# Altium schematic symbol library RPi Module.SchLib: 16 symbols
Pins are listed as number, name and electrical type; pins without a type are passive.

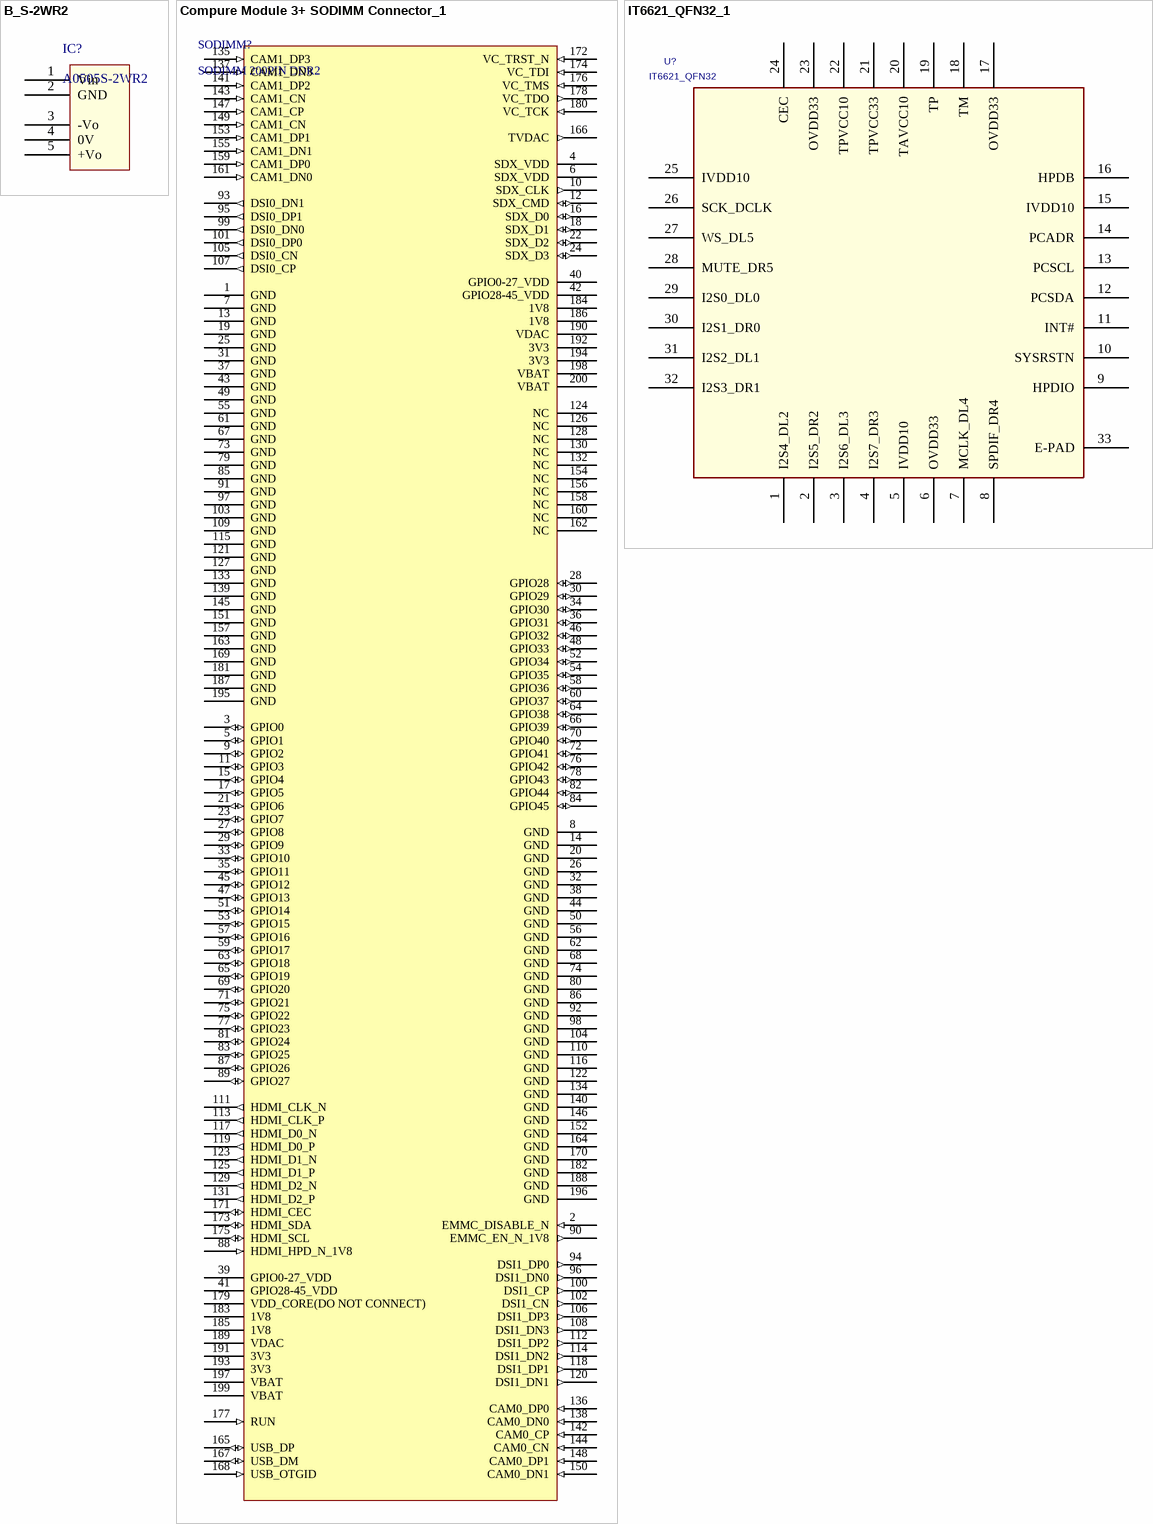
[diagram p0: symbols B_S-2WR2 to IT6621_QFN32_1]

## B_S-2WR2
designator IC?, comment A0505S-2WR2
MORNSUN DC-DC模块 2我，定压输入，隔离非稳压 正负双路/单路输出
footprint B_S-2WR2 (MORNSUN A_S-2WR2&B_S-2WR2系列)
pins: 1 Vin (power), 2 GND (power), 3 -Vo (power), 4 0V (power), 5 +Vo (power)

## Compure Module 3+ SODIMM Connector_1
designator SODIMM?, comment SODIMM 200PIN DDR2
ComponentLink1Description: DataSheets; ComponentLink1URL: https://www.raspberrypi.org/documentation/hardware/computemodule/datasheets/rpi_DATA_CM3plus_1p0.pdf
footprint SODIMM 200PIN (200 位 SODIMM DDR2 SDRAM 表面贴装)
pins: 1 GND (power), 2 EMMC_DISABLE_N (in), 3 GPIO0 (io), 4 SDX_VDD (power), 5 GPIO1 (io), 6 SDX_VDD (power), 7 GND (power), 8 GND (power), 9 GPIO2 (io), 10 SDX_CLK (out), 11 GPIO3 (io), 12 SDX_CMD (io), 13 GND (power), 14 GND (power), 15 GPIO4 (io), 16 SDX_D0 (io), 17 GPIO5 (io), 18 SDX_D1 (io), 19 GND (power), 20 GND (power), 21 GPIO6 (io), 22 SDX_D2 (io), 23 GPIO7 (io), 24 SDX_D3 (io), 25 GND (power), 26 GND (power), 27 GPIO8 (io), 28 GPIO28 (io), 29 GPIO9 (io), 30 GPIO29 (io), 31 GND (power), 32 GND (power), 33 GPIO10 (io), 34 GPIO30 (io), 35 GPIO11 (io), 36 GPIO31 (io), 37 GND (power), 38 GND (power), 39 GPIO0-27_VDD (power), 40 GPIO0-27_VDD (power), 41 GPIO28-45_VDD (power), 42 GPIO28-45_VDD (power), 43 GND (power), 44 GND (power), 45 GPIO12 (io), 46 GPIO32 (io), 47 GPIO13 (io), 48 GPIO33 (io), 49 GND (power), 50 GND (power), 51 GPIO14 (io), 52 GPIO34 (io), 53 GPIO15 (io), 54 GPIO35 (io), 55 GND (power), 56 GND (power), 57 GPIO16 (io), 58 GPIO36 (io), 59 GPIO17 (io), 60 GPIO37 (io), 61 GND (power), 62 GND (power), 63 GPIO18 (io), 64 GPIO38 (io), 65 GPIO19 (io), 66 GPIO39 (io), 67 GND (power), 68 GND (power), 69 GPIO20 (io), 70 GPIO40 (io), 71 GPIO21 (io), 72 GPIO41 (io), 73 GND (power), 74 GND (power), 75 GPIO22 (io), 76 GPIO42 (io), 77 GPIO23 (io), 78 GPIO43 (io), 79 GND (power), 80 GND (power), 81 GPIO24 (io), 82 GPIO44 (io), 83 GPIO25 (io), 84 GPIO45 (io), 85 GND (power), 86 GND (power), 87 GPIO26 (io), 88 HDMI_HPD_N_1V8 (in), 89 GPIO27 (io), 90 EMMC_EN_N_1V8 (out), 91 GND (power), 92 GND (power), 93 DSI0_DN1 (out), 94 DSI1_DP0 (out), 95 DSI0_DP1 (out), 96 DSI1_DN0 (out), 97 GND (power), 98 GND (power), 99 DSI0_DN0 (out), 100 DSI1_CP (out), 101 DSI0_DP0 (out), 102 DSI1_CN (out), 103 GND (power), 104 GND (power), 105 DSI0_CN (out), 106 DSI1_DP3 (out), 107 DSI0_CP (out), 108 DSI1_DN3 (out), 109 GND (power), 110 GND (power), 111 HDMI_CLK_N (out), 112 DSI1_DP2 (out), 113 HDMI_CLK_P (out), 114 DSI1_DN2 (out), 115 GND (power), 116 GND (power), 117 HDMI_D0_N (out), 118 DSI1_DP1 (out), 119 HDMI_D0_P (out), 120 DSI1_DN1 (out), 121 GND (power), 122 GND (power), 123 HDMI_D1_N (out), 124 NC, 125 HDMI_D1_P (out), 126 NC, 127 GND (power), 128 NC, 129 HDMI_D2_N (out), 130 NC, 131 HDMI_D2_P (out), 132 NC, 133 GND (power), 134 GND (power), 135 CAM1_DP3 (in), 136 CAM0_DP0 (in), 137 CAM1_DN3 (in), 138 CAM0_DN0 (in), 139 GND (power), 140 GND (power), 141 CAM1_DP2 (in), 142 CAM0_CP (in), 143 CAM1_CN (in), 144 CAM0_CN (in), 145 GND (power), 146 GND (power), 147 CAM1_CP (in), 148 CAM0_DP1 (in), 149 CAM1_CN (in), 150 CAM0_DN1 (in), 151 GND (power), 152 GND (power), 153 CAM1_DP1 (in), 154 NC, 155 CAM1_DN1 (in), 156 NC, 157 GND (power), 158 NC, 159 CAM1_DP0 (in), 160 NC, 161 CAM1_DN0 (in), 162 NC, 163 GND (power), 164 GND (power), 165 USB_DP (io), 166 TVDAC (out), 167 USB_DM (io), 168 USB_OTGID (in), 169 GND (power), 170 GND (power), 171 HDMI_CEC (io), 172 VC_TRST_N (in), 173 HDMI_SDA (io), 174 VC_TDI (in), 175 HDMI_SCL (io), 176 VC_TMS (in), 177 RUN (in), 178 VC_TDO (out), 179 VDD_CORE(DO NOT CONNECT) (power), 180 VC_TCK (in), 181 GND (power), 182 GND (power), 183 1V8 (power), 184 1V8 (power), 185 1V8 (power), 186 1V8 (power), 187 GND (power), 188 GND (power), 189 VDAC (power), 190 VDAC (power), 191 3V3 (power), 192 3V3 (power), 193 3V3 (power), 194 3V3 (power), 195 GND (power), 196 GND (power), 197 VBAT (power), 198 VBAT (power), 199 VBAT (power), 200 VBAT (power)

## IT6621_QFN32_1
designator U?, comment IT6621_QFN32
footprint QFN32_ITE
pins: 1 I2S4_DL2, 2 I2S5_DR2, 3 I2S6_DL3, 4 I2S7_DR3, 5 IVDD10, 6 OVDD33, 7 MCLK_DL4, 8 SPDIF_DR4, 9 HPDIO, 10 SYSRSTN, 11 INT#, 12 PCSDA, 13 PCSCL, 14 PCADR, 15 IVDD10, 16 HPDB, 17 OVDD33, 18 TM, 19 TP, 20 TAVCC10, 21 TPVCC33, 22 TPVCC10, 23 OVDD33, 24 CEC, 25 IVDD10, 26 SCK_DCLK, 27 WS_DL5, 28 MUTE_DR5, 29 I2S0_DL0, 30 I2S1_DR0, 31 I2S2_DL1, 32 I2S3_DR1, 33 E-PAD

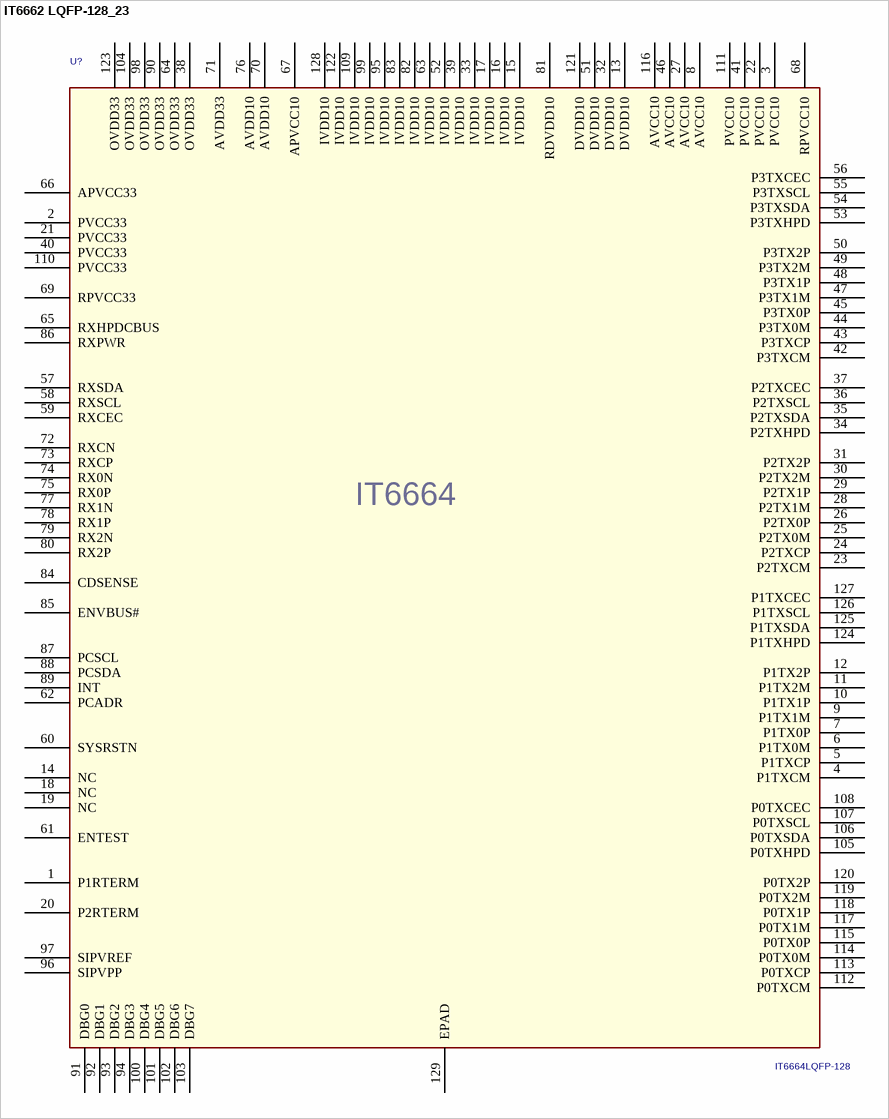
[diagram p1: symbol IT6662 LQFP-128_23]

## IT6662 LQFP-128_23
designator U?, comment IT6664LQFP-128
footprint VFBGA64
footprint CH6002
pins: 1 P1RTERM, 2 PVCC33, 3 PVCC10, 4 P1TXCM, 5 P1TXCP, 6 P1TX0M, 7 P1TX0P, 8 AVCC10, 9 P1TX1M, 10 P1TX1P, 11 P1TX2M, 12 P1TX2P, 13 DVDD10, 14 NC, 15 IVDD10, 16 IVDD10, 17 IVDD10, 18 NC, 19 NC, 20 P2RTERM, 21 PVCC33, 22 PVCC10, 23 P2TXCM, 24 P2TXCP, 25 P2TX0M, 26 P2TX0P, 27 AVCC10, 28 P2TX1M, 29 P2TX1P, 30 P2TX2M, 31 P2TX2P, 32 DVDD10, 33 IVDD10, 34 P2TXHPD, 35 P2TXSDA, 36 P2TXSCL, 37 P2TXCEC, 38 OVDD33, 39 IVDD10, 40 PVCC33, 41 PVCC10, 42 P3TXCM, 43 P3TXCP, 44 P3TX0M, 45 P3TX0P, 46 AVCC10, 47 P3TX1M, 48 P3TX1P, 49 P3TX2M, 50 P3TX2P, 51 DVDD10, 52 IVDD10, 53 P3TXHPD, 54 P3TXSDA, 55 P3TXSCL, 56 P3TXCEC, 57 RXSDA, 58 RXSCL, 59 RXCEC, 60 SYSRSTN, 61 ENTEST, 62 PCADR, 63 IVDD10, 64 OVDD33, 65 RXHPDCBUS, 66 APVCC33, 67 APVCC10, 68 RPVCC10, 69 RPVCC33, 70 AVDD10, 71 AVDD33, 72 RXCN, 73 RXCP, 74 RX0N, 75 RX0P, 76 AVDD10, 77 RX1N, 78 RX1P, 79 RX2N, 80 RX2P, 81 RDVDD10, 82 IVDD10, 83 IVDD10, 84 CDSENSE, 85 ENVBUS#, 86 RXPWR, 87 PCSCL, 88 PCSDA, 89 INT, 90 OVDD33, 91 DBG0, 92 DBG1, 93 DBG2, 94 DBG3, 95 IVDD10, 96 SIPVPP, 97 SIPVREF, 98 OVDD33, 99 IVDD10, 100 DBG4, 101 DBG5, 102 DBG6, 103 DBG7, 104 OVDD33, 105 P0TXHPD, 106 P0TXSDA, 107 P0TXSCL, 108 P0TXCEC, 109 IVDD10, 110 PVCC33, 111 PVCC10, 112 P0TXCM, 113 P0TXCP, 114 P0TX0M, 115 P0TX0P, 116 AVCC10, 117 P0TX1M, 118 P0TX1P, 119 P0TX2M, 120 P0TX2P, 121 DVDD10, 122 IVDD10, 123 OVDD33, 124 P1TXHPD, 125 P1TXSDA, 126 P1TXSCL, 127 P1TXCEC, 128 IVDD10, 129 EPAD
text: IT6664

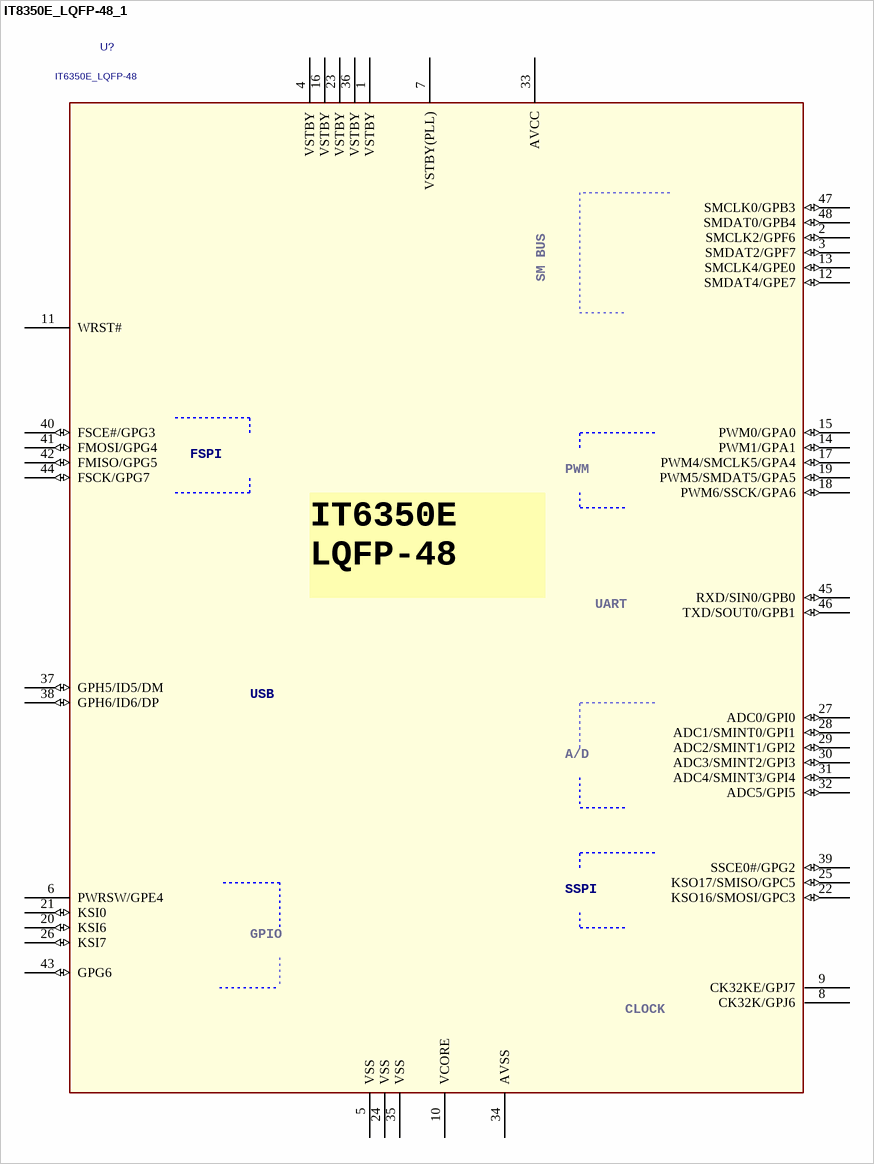
[diagram p2: symbol IT8350E_LQFP-48_1]

## IT8350E_LQFP-48_1
designator U?, comment IT6350E_LQFP-48
footprint LQFP\48
pins: 1 VSTBY (power), 2 SMCLK2/GPF6 (io), 3 SMDAT2/GPF7 (io), 4 VSTBY (power), 5 VSS (power), 6 PWRSW/GPE4, 7 VSTBY(PLL) (power), 8 CK32K/GPJ6, 9 CK32KE/GPJ7, 10 VCORE, 11 WRST#, 12 SMDAT4/GPE7 (io), 13 SMCLK4/GPE0 (io), 14 PWM1/GPA1 (io), 15 PWM0/GPA0 (io), 16 VSTBY (power), 17 PWM4/SMCLK5/GPA4 (io), 18 PWM6/SSCK/GPA6 (io), 19 PWM5/SMDAT5/GPA5 (io), 20 KSI6 (io), 21 KSI0 (io), 22 KSO16/SMOSI/GPC3 (io), 23 VSTBY (power), 24 VSS (power), 25 KSO17/SMISO/GPC5 (io), 26 KSI7 (io), 27 ADC0/GPI0 (io), 28 ADC1/SMINT0/GPI1 (io), 29 ADC2/SMINT1/GPI2 (io), 30 ADC3/SMINT2/GPI3 (io), 31 ADC4/SMINT3/GPI4 (io), 32 ADC5/GPI5 (io), 33 AVCC (power), 34 AVSS (power), 35 VSS (power), 36 VSTBY (power), 37 GPH5/ID5/DM (io), 38 GPH6/ID6/DP (io), 39 SSCE0#/GPG2 (io), 40 FSCE#/GPG3 (io), 41 FMOSI/GPG4 (io), 42 FMISO/GPG5 (io), 43 GPG6 (io), 44 FSCK/GPG7 (io), 45 RXD/SIN0/GPB0 (io), 46 TXD/SOUT0/GPB1 (io), 47 SMCLK0/GPB3 (io), 48 SMDAT0/GPB4 (io)
text: SM BUS; FSPI; PWM; IT6350E / LQFP-48; UART; USB; A/D; SSPI; GPIO; CLOCK

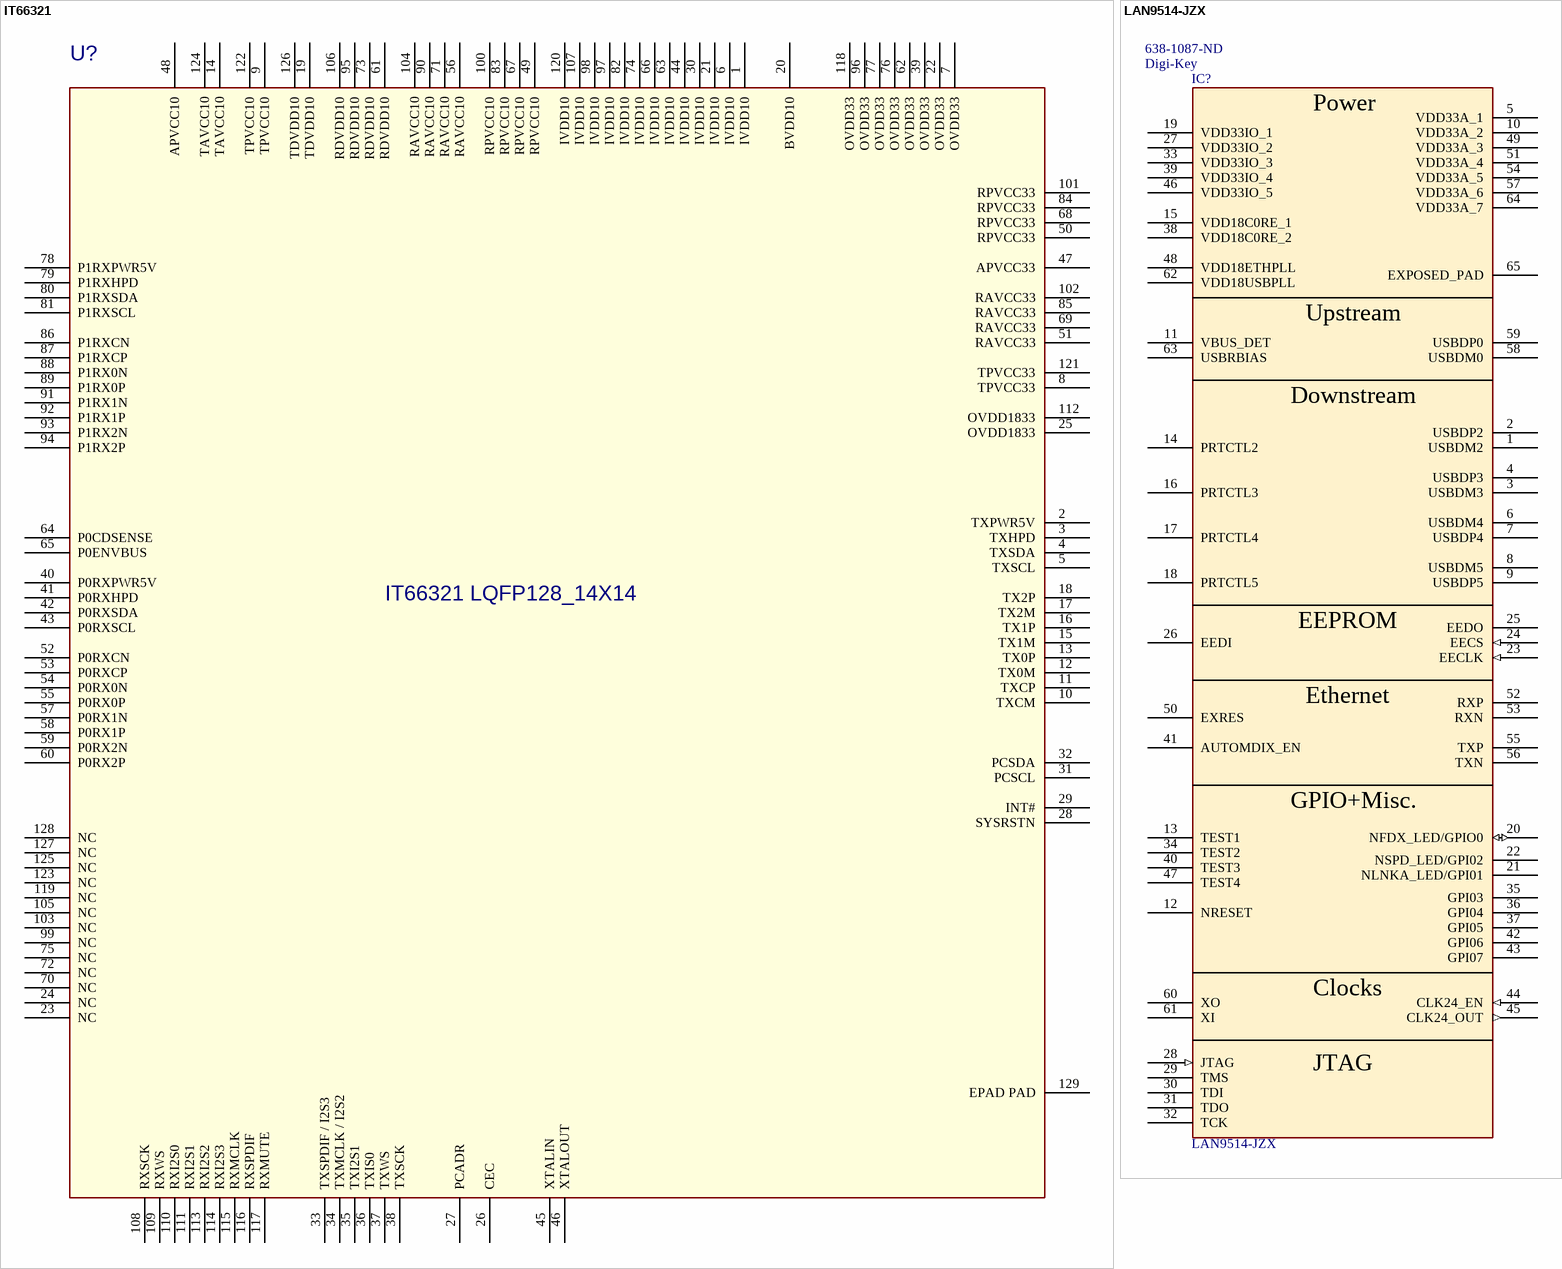
[diagram p3: symbols IT66321 to LAN9514-JZX]

## IT66321
designator U?, comment IT66321 LQFP128_14X14
footprint LQFP-128
footprint LQFP128
pins: 1 IVDD10, 2 TXPWR5V, 3 TXHPD, 4 TXSDA, 5 TXSCL, 6 IVDD10, 7 OVDD33, 8 TPVCC33, 9 TPVCC10, 10 TXCM, 11 TXCP, 12 TX0M, 13 TX0P, 14 TAVCC10, 15 TX1M, 16 TX1P, 17 TX2M, 18 TX2P, 19 TDVDD10, 20 BVDD10, 21 IVDD10, 22 OVDD33, 23 NC, 24 NC, 25 OVDD1833, 26 CEC, 27 PCADR, 28 SYSRSTN, 29 INT#, 30 IVDD10, 31 PCSCL, 32 PCSDA, 33 TXSPDIF / I2S3, 34 TXMCLK / I2S2, 35 TXI2S1, 36 TXIS0, 37 TXWS, 38 TXSCK, 39 OVDD33, 40 P0RXPWR5V, 41 P0RXHPD, 42 P0RXSDA, 43 P0RXSCL, 44 IVDD10, 45 XTALIN, 46 XTALOUT, 47 APVCC33, 48 APVCC10, 49 RPVCC10, 50 RPVCC33, 51 RAVCC33, 52 P0RXCN, 53 P0RXCP, 54 P0RX0N, 55 P0RX0P, 56 RAVCC10, 57 P0RX1N, 58 P0RX1P, 59 P0RX2N, 60 P0RX2P, 61 RDVDD10, 62 OVDD33, 63 IVDD10, 64 P0CDSENSE, 65 P0ENVBUS, 66 IVDD10, 67 RPVCC10, 68 RPVCC33, 69 RAVCC33, 70 NC, 71 RAVCC10, 72 NC, 73 RDVDD10, 74 IVDD10, 75 NC, 76 OVDD33, 77 OVDD33, 78 P1RXPWR5V, 79 P1RXHPD, 80 P1RXSDA, 81 P1RXSCL, 82 IVDD10, 83 RPVCC10, 84 RPVCC33, 85 RAVCC33, 86 P1RXCN, 87 P1RXCP, 88 P1RX0N, 89 P1RX0P, 90 RAVCC10, 91 P1RX1N, 92 P1RX1P, 93 P1RX2N, 94 P1RX2P, 95 RDVDD10, 96 OVDD33, 97 IVDD10, 98 IVDD10, 99 NC, 100 RPVCC10, 101 RPVCC33, 102 RAVCC33, 103 NC, 104 RAVCC10, 105 NC, 106 RDVDD10, 107 IVDD10, 108 RXSCK, 109 RXWS, 110 RXI2S0, 111 RXI2S1, 112 OVDD1833, 113 RXI2S2, 114 RXI2S3, 115 RXMCLK, 116 RXSPDIF, 117 RXMUTE, 118 OVDD33, 119 NC, 120 IVDD10, 121 TPVCC33, 122 TPVCC10, 123 NC, 124 TAVCC10, 125 NC, 126 TDVDD10, 127 NC, 128 NC, 129 EPAD PAD

## LAN9514-JZX
designator IC?  Supplier 1: Digi-Key  Supplier Part Number 1: 638-1087-ND
USB2.0 Hub 10/100Mbps Controller QFN64; Manufacturer_Name: Microchip; Allied_Number: 70414988; Datasheet Link: http://docs-emea.rs-online.com/webdocs/11a5/0900766b811a553b.pdf; Height: 1mm; Manufacturer_Part_Number: LAN9514-JZX; Mouser Part Number: 886-LAN9514-JZX; Mouser Price/Stock: https://www.mouser.com/Search/Refine.aspx?Keyword=886-LAN9514-JZX; RS Part Number: 7729610P; RS Price/Stock: http://uk.rs-online.com/web/p/products/7729610P; Allied Price/Stock: http://www.alliedelec.com/microchip-technology-inc-lan9514-jzx/70414988/
footprint QFN50P900X900X100-65N-D
pins: 1 USBDM2, 2 USBDP2, 3 USBDM3, 4 USBDP3, 5 VDD33A_1 (power), 6 USBDM4, 7 USBDP4, 8 USBDM5, 9 USBDP5, 10 VDD33A_2 (power), 11 VBUS_DET, 12 NRESET, 13 TEST1, 14 PRTCTL2, 15 VDD18C0RE_1 (power), 16 PRTCTL3, 17 PRTCTL4, 18 PRTCTL5, 19 VDD33IO_1 (power), 20 NFDX_LED/GPIO0 (io), 21 NLNKA_LED/GPI01, 22 NSPD_LED/GPI02, 23 EECLK (in), 24 EECS (in), 25 EEDO, 26 EEDI, 27 VDD33IO_2 (power), 28 JTAG (in), 29 TMS, 30 TDI, 31 TDO, 32 TCK, 33 VDD33IO_3 (power), 34 TEST2, 35 GPI03, 36 GPI04, 37 GPI05, 38 VDD18C0RE_2 (power), 39 VDD33IO_4 (power), 40 TEST3, 41 AUTOMDIX_EN, 42 GPI06, 43 GPI07, 44 CLK24_EN (in), 45 CLK24_OUT (out), 46 VDD33IO_5 (power), 47 TEST4, 48 VDD18ETHPLL (power), 49 VDD33A_3 (power), 50 EXRES, 51 VDD33A_4 (power), 52 RXP, 53 RXN, 54 VDD33A_5 (power), 55 TXP, 56 TXN, 57 VDD33A_6 (power), 58 USBDM0, 59 USBDP0, 60 XO, 61 XI, 62 VDD18USBPLL (power), 63 USBRBIAS, 64 VDD33A_7 (power), 65 EXPOSED_PAD
text: Power; Upstream; Downstream; EEPROM; Ethernet; GPIO+Misc.; Clocks

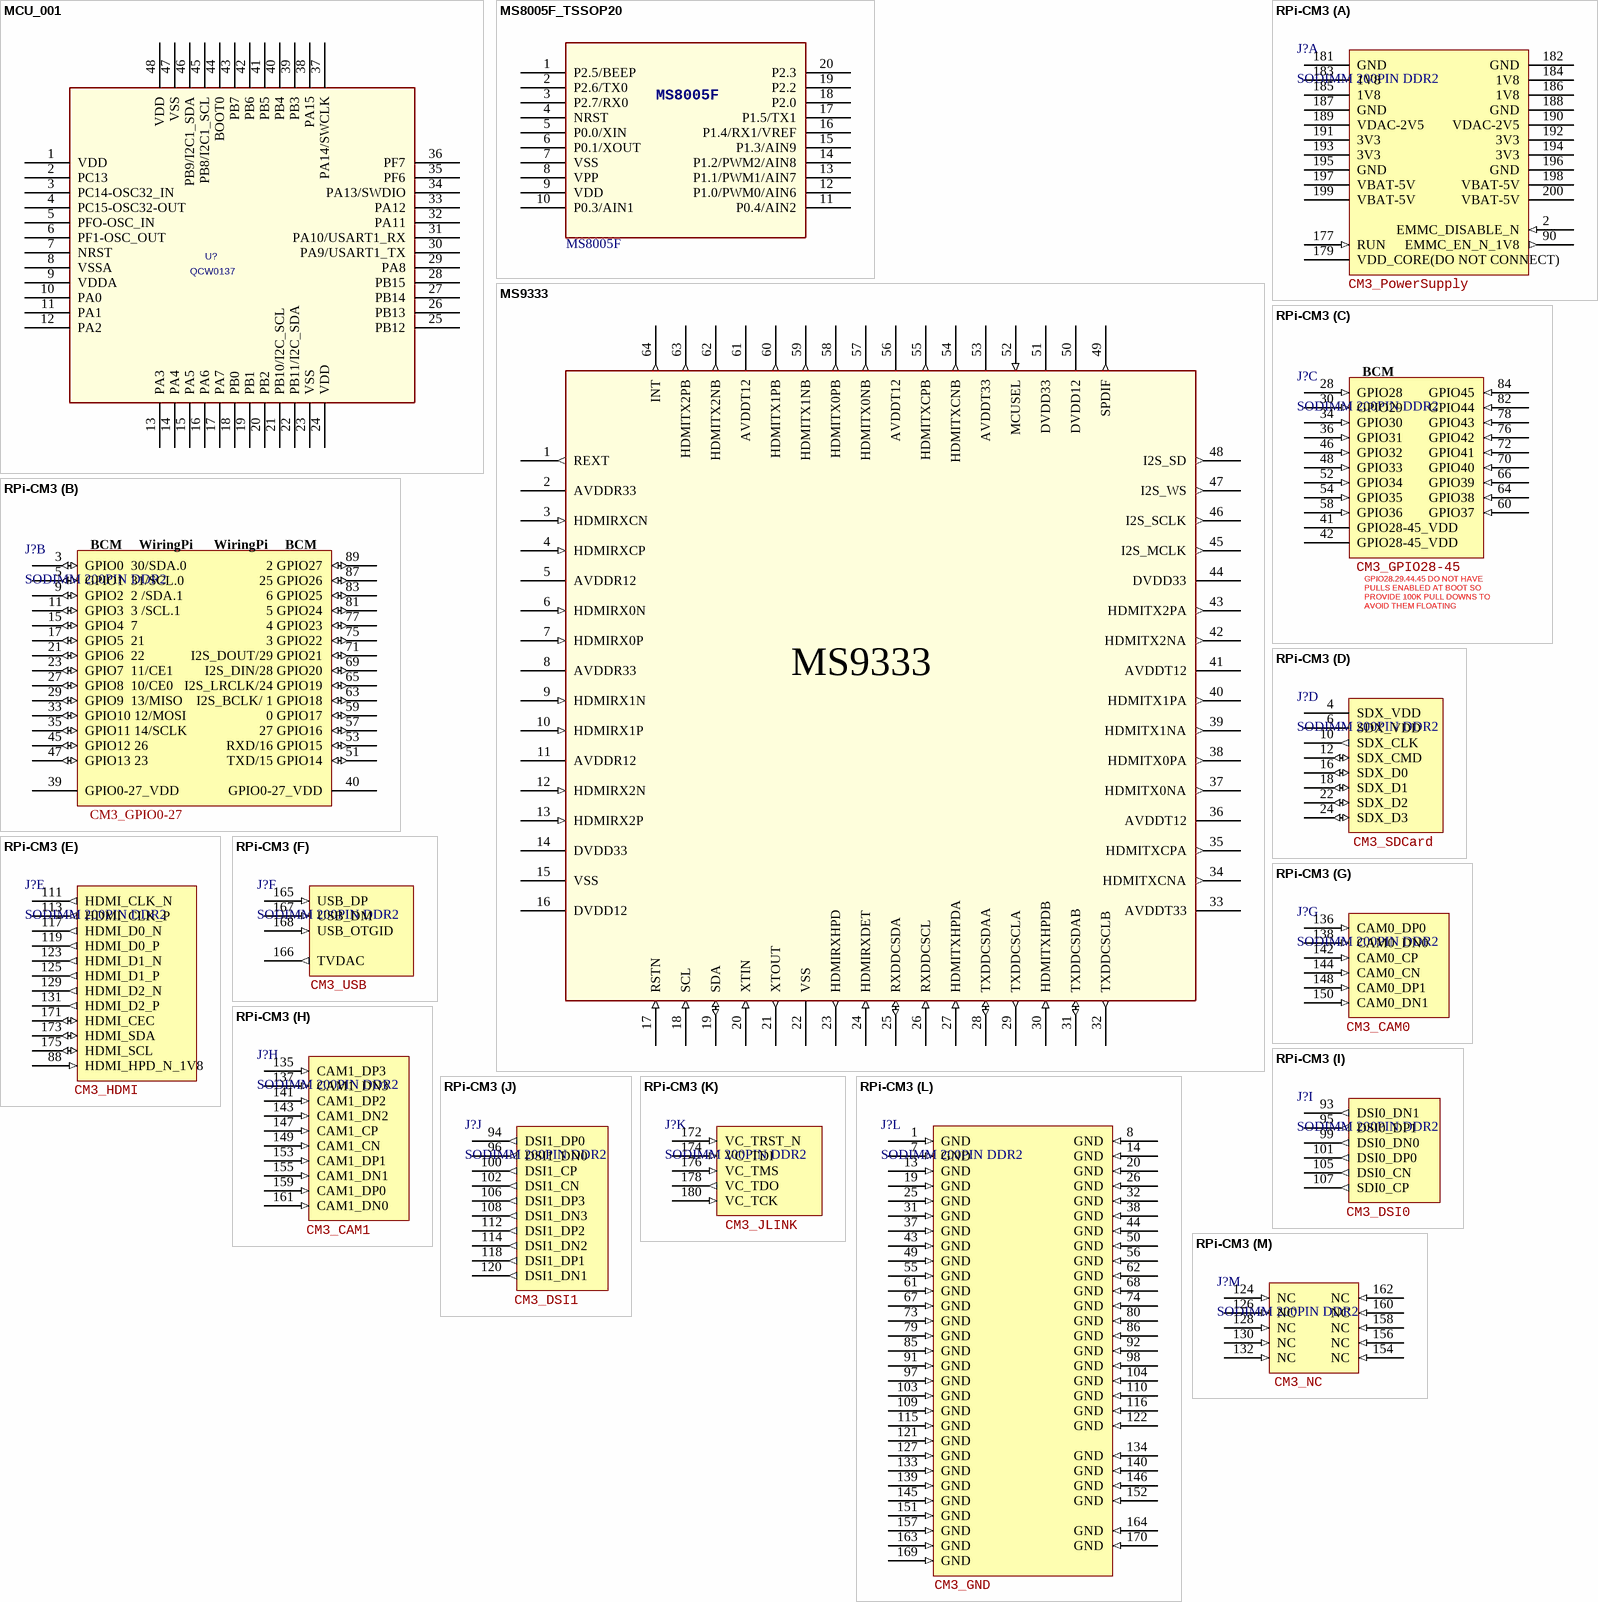
[diagram p4: symbols MCU_001 to RPi-CM3]

## MCU_001
designator U?, comment QCW0137
footprint LQFP48
pins: 1 VDD (power), 2 PC13, 3 PC14-OSC32_IN, 4 PC15-OSC32-OUT, 5 PFO-OSC_IN, 6 PF1-OSC_OUT, 7 NRST, 8 VSSA, 9 VDDA, 10 PA0, 11 PA1, 12 PA2, 13 PA3, 14 PA4, 15 PA5, 16 PA6, 17 PA7, 18 PB0, 19 PB1, 20 PB2, 21 PB10/I2C_SCL, 22 PB11/I2C_SDA, 23 VSS (power), 24 VDD (power), 25 PB12, 26 PB13, 27 PB14, 28 PB15, 29 PA8, 30 PA9/USART1_TX, 31 PA10/USART1_RX, 32 PA11, 33 PA12, 34 PA13/SWDIO, 35 PF6, 36 PF7, 37 PA14/SWCLK, 38 PA15, 39 PB3, 40 PB4, 41 PB5, 42 PB6, 43 PB7, 44 BOOT0, 45 PB8/I2C1_SCL, 46 PB9/I2C1_SDA, 47 VSS (power), 48 VDD (power)

## MS8005F_TSSOP20
designator U?, comment MS8005F
MCU
footprint TSSOP20
pins: 1 P2.5/BEEP, 2 P2.6/TX0, 3 P2.7/RX0, 4 NRST, 5 P0.0/XIN, 6 P0.1/XOUT, 7 VSS, 8 VPP, 9 VDD, 10 P0.3/AIN1, 11 P0.4/AIN2, 12 P1.0/PWM0/AIN6, 13 P1.1/PWM1/AIN7, 14 P1.2/PWM2/AIN8, 15 P1.3/AIN9, 16 P1.4/RX1/VREF, 17 P1.5/TX1, 18 P2.0, 19 P2.2, 20 P2.3

## MS9333
designator U?
footprint LQFP64-0.5
pins: 1 REXT (out), 2 AVDDR33 (power), 3 HDMIRXCN (in), 4 HDMIRXCP (in), 5 AVDDR12 (power), 6 HDMIRX0N (in), 7 HDMIRX0P (in), 8 AVDDR33 (power), 9 HDMIRX1N (in), 10 HDMIRX1P (in), 11 AVDDR12 (power), 12 HDMIRX2N (in), 13 HDMIRX2P (in), 14 DVDD33 (power), 15 VSS (power), 16 DVDD12 (power), 17 RSTN (in), 18 SCL (in), 19 SDA (io), 20 XTIN (in), 21 XTOUT (out), 22 VSS (power), 23 HDMIRXHPD (out), 24 HDMIRXDET (in), 25 RXDDCSDA (io), 26 RXDDCSCL (in), 27 HDMITXHPDA (in), 28 TXDDCSDAA (io), 29 TXDDCSCLA (out), 30 HDMITXHPDB (in), 31 TXDDCSDAB (io), 32 TXDDCSCLB (out), 33 AVDDT33 (power), 34 HDMITXCNA (out), 35 HDMITXCPA (out), 36 AVDDT12 (power), 37 HDMITX0NA (out), 38 HDMITX0PA (out), 39 HDMITX1NA (out), 40 HDMITX1PA (out), 41 AVDDT12 (power), 42 HDMITX2NA (out), 43 HDMITX2PA (out), 44 DVDD33 (power), 45 I2S_MCLK (out), 46 I2S_SCLK (out), 47 I2S_WS (out), 48 I2S_SD (out), 49 SPDIF (out), 50 DVDD12 (power), 51 DVDD33 (power), 52 MCUSEL (in), 53 AVDDT33 (power), 54 HDMITXCNB (out), 55 HDMITXCPB (out), 56 AVDDT12 (power), 57 HDMITX0NB (out), 58 HDMITX0PB (out), 59 HDMITX1NB (out), 60 HDMITX1PB (out), 61 AVDDT12 (power), 62 HDMITX2NB (out), 63 HDMITX2PB (out), 64 INT (out)

## RPi-CM3
designator J?, comment SODIMM 200PIN DDR2
footprint SODIMM 200PIN - 5.2H (200 位 SODIMM DDR2 SDRAM 表面贴装)
part A pins: 2 EMMC_DISABLE_N (in) "Has internal 10k pull up", 90 EMMC_EN_N_1V8 (out) "Has internal 2k2 pull up", 177 RUN (in) "Has internal 10k pull up", 179 VDD_CORE(DO NOT CONNECT) (power), 181 GND (power), 182 GND (power), 183 1V8 (power), 184 1V8 (power), 185 1V8 (power), 186 1V8 (power), 187 GND (power), 188 GND (power), 189 VDAC-2V5 (power) "TV DAC Supply", 190 VDAC-2V5 (power) "TV DAC Supply", 191 3V3 (power), 192 3V3 (power), 193 3V3 (power), 194 3V3 (power), 195 GND (power), 196 GND (power), 197 VBAT-5V (power) "Core SMPS Supply", 198 VBAT-5V (power) "Core SMPS Supply", 199 VBAT-5V (power) "Core SMPS Supply", 200 VBAT-5V (power) "Core SMPS Supply"
part B pins: 3 GPIO0  30/SDA.0 (io), 5 GPIO1  31/SCL.0 (io), 9 GPIO2  2 /SDA.1 (io), 11 GPIO3  3 /SCL.1 (io), 15 GPIO4  7 (io), 17 GPIO5  21 (io), 21 GPIO6  22 (io), 23 GPIO7  11/CE1 (io), 27 GPIO8  10/CE0 (io), 29 GPIO9  13/MISO (io), 33 GPIO10 12/MOSI (io), 35 GPIO11 14/SCLK (io), 39 GPIO0-27_VDD (power), 40 GPIO0-27_VDD (power), 45 GPIO12 26 (io), 47 GPIO13 23 (io), 51 TXD/15 GPIO14 (io), 53 RXD/16 GPIO15 (io), 57 27 GPIO16 (io), 59  0 GPIO17 (io), 63 I2S_BCLK/ 1 GPIO18 (io), 65 I2S_LRCLK/24 GPIO19 (io), 69 I2S_DIN/28 GPIO20 (io), 71 I2S_DOUT/29 GPIO21 (io), 75  3 GPIO22 (io), 77  4 GPIO23 (io), 81  5 GPIO24 (io), 83  6 GPIO25 (io), 87 25 GPIO26 (io), 89  2 GPIO27 (io)
part C pins: 28 GPIO28 (in), 30 GPIO29 (in), 34 GPIO30 (in), 36 GPIO31 (in), 41 GPIO28-45_VDD (power), 42 GPIO28-45_VDD (power), 46 GPIO32 (in), 48 GPIO33 (in), 52 GPIO34 (in), 54 GPIO35 (in), 58 GPIO36 (in), 60 GPIO37 (in), 64 GPIO38 (in), 66 GPIO39 (in), 70 GPIO40 (in), 72 GPIO41 (in), 76 GPIO42 (in), 78 GPIO43 (in), 82 GPIO44 (in), 84 GPIO45 (in)
part D pins: 4 SDX_VDD (power), 6 SDX_VDD (power), 10 SDX_CLK (out), 12 SDX_CMD (io), 16 SDX_D0 (io), 18 SDX_D1 (io), 22 SDX_D2 (io), 24 SDX_D3 (io)
part E pins: 88 HDMI_HPD_N_1V8 (in) "HDMI hotpulg detect. PDN(Pull High)", 111 HDMI_CLK_N (out), 113 HDMI_CLK_P (out), 117 HDMI_D0_N (out), 119 HDMI_D0_P (out), 123 HDMI_D1_N (out), 125 HDMI_D1_P (out), 129 HDMI_D2_N (out), 131 HDMI_D2_P (out), 171 HDMI_CEC (io) "CEC(has internal 27k pull up  )", 173 HDMI_SDA (io) "DDC Clock (5.5V tolerant)", 175 HDMI_SCL (io) "DDC Data (5.5V tolerant)"
part F pins: 165 USB_DP (in), 166 TVDAC (out), 167 USB_DM (in), 168 USB_OTGID (in) "OTG pin detect PDN(Tie to GND)"
part G pins: 136 CAM0_DP0 (in), 138 CAM0_DN0 (in), 142 CAM0_CP (in), 144 CAM0_CN (in), 148 CAM0_DP1 (in), 150 CAM0_DN1 (in)
part H pins: 135 CAM1_DP3 (in), 137 CAM1_DN3 (in), 141 CAM1_DP2 (in), 143 CAM1_DN2 (in), 147 CAM1_CP (in), 149 CAM1_CN (in), 153 CAM1_DP1 (in), 155 CAM1_DN1 (in), 159 CAM1_DP0 (in), 161 CAM1_DN0 (in)
part I pins: 93 DSI0_DN1 (out), 95 DSI0_DP1 (out), 99 DSI0_DN0 (out), 101 DSI0_DP0 (out), 105 DSI0_CN (out), 107 SDI0_CP (out)
part J pins: 94 DSI1_DP0 (out), 96 DSI1_DN0 (out), 100 DSI1_CP (out), 102 DSI1_CN (out), 106 DSI1_DP3 (out), 108 DSI1_DN3 (out), 112 DSI1_DP2 (out), 114 DSI1_DN2 (out), 118 DSI1_DP1 (out), 120 DSI1_DN1 (out)
part K pins: 172 VC_TRST_N (in), 174 VC_TDI (in), 176 VC_TMS (in), 178 VC_TDO (out), 180 VC_TCK (in)
part L pins: 1 GND (in), 7 GND (in), 8 GND (in), 13 GND (in), 14 GND (in), 19 GND (in), 20 GND (in), 25 GND (in), 26 GND (in), 31 GND (in), 32 GND (in), 37 GND (in), 38 GND (in), 43 GND (in), 44 GND (in), 49 GND (in), 50 GND (in), 55 GND (in), 56 GND (in), 61 GND (in), 62 GND (in), 67 GND (in), 68 GND (in), 73 GND (in), 74 GND (in), 79 GND (in), 80 GND (in), 85 GND (in), 86 GND (in), 91 GND (in), 92 GND (in), 97 GND (in), 98 GND (in), 103 GND (in), 104 GND (in), 109 GND (in), 110 GND (in), 115 GND (in), 116 GND (in), 121 GND (in), 122 GND (in), 127 GND (in), 133 GND (in), 134 GND (in), 139 GND (in), 140 GND (in), 145 GND (in), 146 GND (in), 151 GND (in), 152 GND (in), 157 GND (in), 163 GND (in), 164 GND (in), 169 GND (in), 170 GND (in)
part M pins: 124 NC (in), 126 NC (in), 128 NC (in), 130 NC (in), 132 NC (in), 154 NC (in), 156 NC (in), 158 NC (in), 160 NC (in), 162 NC (in)
part A text: CM3_PowerSupply
part B text: BCM; WiringPi; CM3_GPIO0-27
part C text: BCM; CM3_GPIO28-45; GPIO28.29.44.45 DO NOT HAVE PULLS ENABLED AT BOOT SO PROVIDE 100K PULL DOWNS TO AVOID THEM FLOATING
part D text: CM3_SDCard
part E text: CM3_HDMI
part F text: CM3_USB
part G text: CM3_CAM0
part H text: CM3_CAM1
part I text: CM3_DSI0
part J text: CM3_DSI1
part K text: CM3_JLINK
part L text: CM3_GND
part M text: CM3_NC

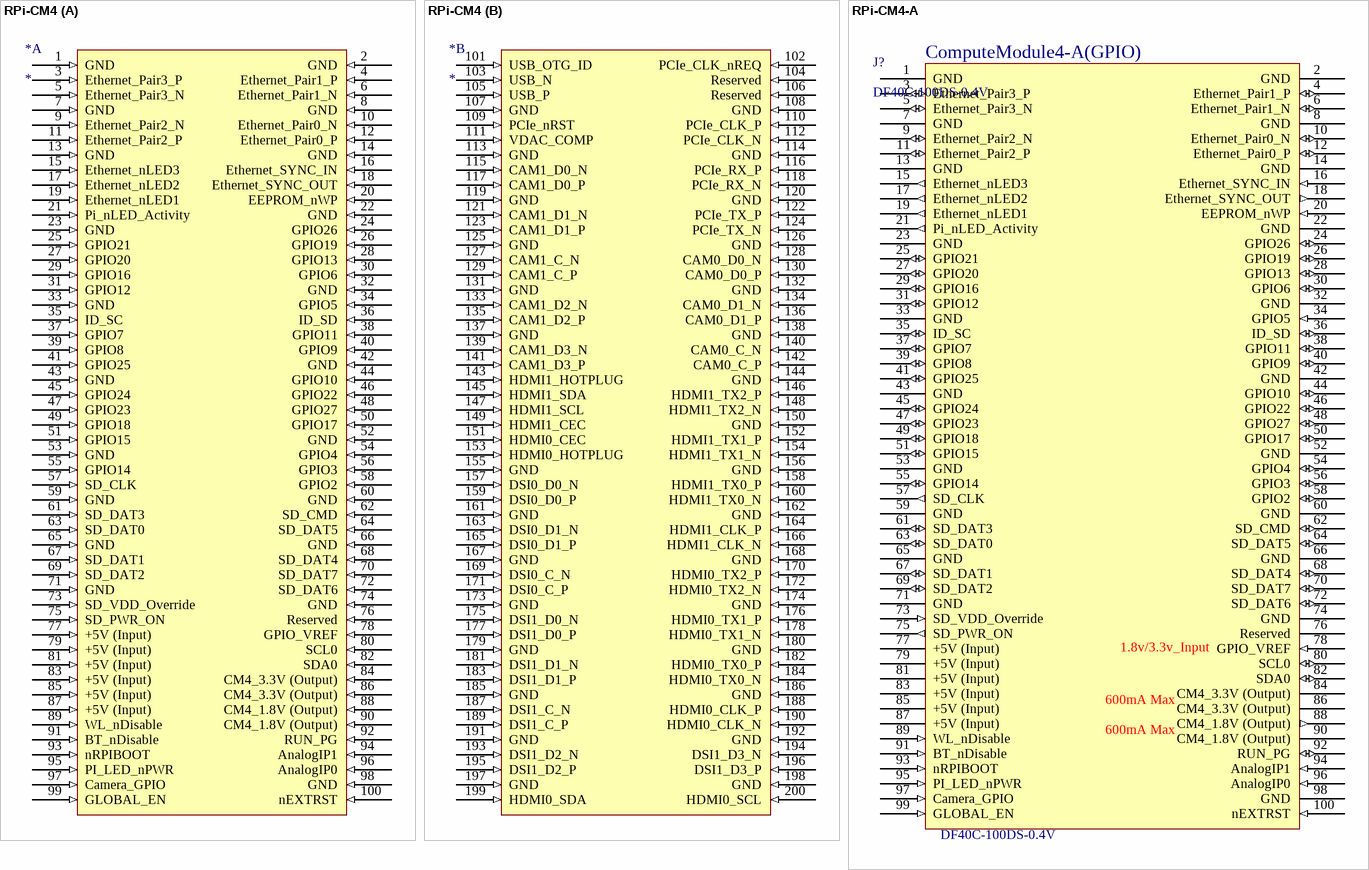
[diagram p5: symbols RPi-CM4 to RPi-CM4-A]

## RPi-CM4
designator *
part A pins: 1 GND (in) "Ground (0V)", 2 GND (in) "Ground (0V)", 3 Ethernet_Pair3_P (in) "Ethernet Pair 3 Positive ( connect to Transformer or MagJack)", 4 Ethernet_Pair1_P (in) "Ethernet Pair 1 Positive ( connect to Transformer or MagJack)", 5 Ethernet_Pair3_N (in) "Ethernet Pair 3 Negative ( connect to Transformer or MagJack)", 6 Ethernet_Pair1_N (in) "Ethernet Pair 1 Negative ( connect to Transformer or MagJack)", 7 GND (in) "Ground (0V)", 8 GND (in) "Ground (0V)", 9 Ethernet_Pair2_N (in) "Ethernet Pair 2 Negative ( connect to Transformer or MagJack)", 10 Ethernet_Pair0_N (in) "Ethernet Pair 0 Negative ( connect to Transformer or MagJack)", 11 Ethernet_Pair2_P (in) "Ethernet Pair 2 Positive ( connect to Transformer or MagJack)", 12 Ethernet_Pair0_P (in) "Ethernet Pair 0 Positive ( connect to Transformer or MagJack)", 13 GND (in) "Ground (0V)", 14 GND (in) "Ground (0V)", 15 Ethernet_nLED3 (in) "Low Active Ethernet Activity indicator ( 3.3V signal) Typically a Green LED is connected tothis pin: I OL = 8mA @ VOL< 0.4V", 16 Ethernet_SYNC_IN (in) "IEEE1588 SYNC Input pin ( 1.8V signal : IOL = 8mA @ VOL< 0.4V )", 17 Ethernet_nLED2 (in) "Low Active Ethernet speed indicator ( 3.3V signal) Typically a Yellow LED is connected tothis pin. A low State indicates the 1Gbit or 100Mbit Link : IOL = 8mA @ VOL< 0.4V", 18 Ethernet_SYNC_OUT (in) "IEEE1588 SYNC Output pin ( 1.8V signal : IOL = 8mA @ V OL< 0.4V )", 19 Ethernet_nLED1 (in) "Low Active Ethernet speed indicator ( 3.3V signal) Typically a Yellow LED is connected tothis pin. A low State indicates the 1Gbit or 10Mbit Link : IOL = 8mA @ VOL< 0.4V", 20 EEPROM_nWP (in) "Leaving floating NB internally pulled up to CM4_3.3V via 100K ( VIL <0.8V) but can begrounded to prevent writing to the on board EEPROM which stores the bootcode", 21 Pi_nLED_Activity (in) "Low Active Pi Activity LED. 20mA Max 5V tolerant ( VOL<0.4V). ( this is the signal that drivesthe Green LED on the Raspberry Pi 4, Model B )", 22 GND (in) "Ground (0V)", 23 GND (in) "Ground (0V)", 24 GPIO26 (in) "GPIO Typically a 3.3V signal but can be a 1.8V signal by connecting GPIO_Vref to 1.8V", 25 GPIO21 (in) "GPIO Typically a 3.3V signal but can be a 1.8V signal by connecting GPIO_Vref to 1.8V", 26 GPIO19 (in) "GPIO Typically a 3.3V signal but can be a 1.8V signal by connecting GPIO_Vref to 1.8V", 27 GPIO20 (in) "GPIO Typically a 3.3V signal but can be a 1.8V signal by connecting GPIO_Vref to 1.8V", 28 GPIO13 (in) "GPIO Typically a 3.3V signal but can be a 1.8V signal by connecting GPIO_Vref to 1.8V", 29 GPIO16 (in) "GPIO Typically a 3.3V signal but can be a 1.8V signal by connecting GPIO_Vref to 1.8V", 30 GPIO6 (in) "GPIO Typically a 3.3V signal but can be a 1.8V signal by connecting GPIO_Vref to 1.8V", 31 GPIO12 (in) "GPIO Typically a 3.3V signal but can be a 1.8V signal by connecting GPIO_Vref to 1.8V", 32 GND (in) "Ground (0V)", 33 GND (in) "Ground (0V)", 34 GPIO5 (in) "GPIO Typically a 3.3V signal but can be a 1.8V signal by connecting GPIO_Vref to 1.8V", 35 ID_SC (in) "( BCM2711 GPIO 1) GPIO Typically a 3.3V signal but can be a 1.8V signal by connectingGPIO_Vref to 1.8V", 36 ID_SD (in) "( BCM2711 GPIO 0) GPIO Typically a 3.3V signal but can be a 1.8V signal by connectingGPIO_Vref to 1.8V", 37 GPIO7 (in) "GPIO Typically a 3.3V signal but can be a 1.8V signal by connecting GPIO_Vref to 1.8V", 38 GPIO11 (in) "GPIO Typically a 3.3V signal but can be a 1.8V signal by connecting GPIO_Vref to 1.8V", 39 GPIO8 (in) "GPIO Typically a 3.3V signal but can be a 1.8V signal by connecting GPIO_Vref to 1.8V", 40 GPIO9 (in) "GPIO Typically a 3.3V signal but can be a 1.8V signal by connecting GPIO_Vref to 1.8V", 41 GPIO25 (in) "GPIO Typically a 3.3V signal but can be a 1.8V signal by connecting GPIO_Vref to 1.8V", 42 GND (in) "Ground (0V)", 43 GND (in) "Ground (0V)", 44 GPIO10 (in) "GPIO Typically a 3.3V signal but can be a 1.8V signal by connecting GPIO_Vref to 1.8V", 45 GPIO24 (in) "GPIO Typically a 3.3V signal but can be a 1.8V signal by connecting GPIO_Vref to 1.8V", 46 GPIO22 (in) "GPIO Typically a 3.3V signal but can be a 1.8V signal by connecting GPIO_Vref to 1.8V", 47 GPIO23 (in) "GPIO Typically a 3.3V signal but can be a 1.8V signal by connecting GPIO_Vref to 1.8V", 48 GPIO27 (in) "GPIO Typically a 3.3V signal but can be a 1.8V signal by connecting GPIO_Vref to 1.8V", 49 GPIO18 (in) "GPIO Typically a 3.3V signal but can be a 1.8V signal by connecting GPIO_Vref to 1.8V", 50 GPIO17 (in) "GPIO Typically a 3.3V signal but can be a 1.8V signal by connecting GPIO_Vref to 1.8V", 51 GPIO15 (in) "GPIO Typically a 3.3V signal but can be a 1.8V signal by connecting GPIO_Vref to 1.8V", 52 GND (in) "Ground (0V)", 53 GND (in) "Ground (0V)", 54 GPIO4 (in) "GPIO Typically a 3.3V signal but can be a 1.8V signal by connecting GPIO_Vref to 1.8V", 55 GPIO14 (in) "GPIO Typically a 3.3V signal but can be a 1.8V signal by connecting GPIO_Vref to 1.8V", 56 GPIO3 (in) "GPIO Typically a 3.3V signal but can be a 1.8V signal by connecting GPIO_Vref to 1.8V.Internal 1.8K pull up to GPIO_Vref", 57 SD_CLK (in) "SDCARD Clock signal (only available on CM4Lite)", 58 GPIO2 (in) "GPIO Typically a 3.3V signal but can be a 1.8V signal by connecting GPIO_Vref to 1.8V.Internal 1.8K pull up to GPIO_Vref", 59 GND (in) "Ground (0V)", 60 GND (in) "Ground (0V)", 61 SD_DAT3 (in) "SDCARD/eMMC Data3 signal (only available on CM4Lite)", 62 SD_CMD (in) "SDCARD/eMMC Command signal (only available on CM4Lite)", 63 SD_DAT0 (in) "SDCARD/eMMC Data0 signal (only available on CM4Lite)", 64 SD_DAT5 (in) "SDCARD/eMMC Data5 signal (only available on CM4Lite)", 65 GND (in) "Ground (0V)", 66 GND (in) "Ground (0V)", 67 SD_DAT1 (in) "SDCARD/eMMC Data1 signal (only available on CM4Lite)", 68 SD_DAT4 (in) "SDCARD/eMMC Data4 signal (only available on CM4Lite)", 69 SD_DAT2 (in) "SDCARD/eMMC Data2 signal (only available on CM4Lite)", 70 SD_DAT7 (in) "SDCARD/eMMC Data7 signal (only available on CM4Lite)", 71 GND (in) "Ground (0V)", 72 SD_DAT6 (in) "SDCARD/eMMC Data6 signal (only available on CM4Lite)", 73 SD_VDD_Override (in) "Force SDCARD/eMMC interface to 1.8V signalling if set to 3.3V, otherwise leaveunconnected. Typically only used if external eMMC is connected", 74 GND (in) "Ground (0V)", 75 SD_PWR_ON (in) "Output to Power switch for the SDCARD. The CM4 sets this pin High (3.3V) to signal thatPower to the SDCARD should be turned on. If booting from the SDCARD is required then apullup should also be fitted so the power defaults to on. (only available on CM4Lite)", 76 Reserved (in) "Do not Connect anything to this pin.", 77 +5V (Input) (in) "4.75V-5.25V Main power input", 78 GPIO_VREF (in) "Must be connected to CM4_3.3V ( pins 84 and 86 ) for 3.3V GPIO or CM4_1.8V ( pins 88 and90) for 1.8V GPIO. This pin cannot be floating or connected to ground", 79 +5V (Input) (in) "4.75V-5.25V Main power input", 80 SCL0 (in) "IIC Clock pin ( BCM2711 GPIO45) Typically used for Camera and Display Internal 1.8K pullup to CM4_3.3V", 81 +5V (Input) (in) "4.75V-5.25V Main power input", 82 SDA0 (in) "IIC Data pin ( BCM2711 GPIO44 ) Typically used for Camera and Display Internal 1.8K pullup to CM4_3.3V", 83 +5V (Input) (in) "4.75V-5.25V Main power input", 84 CM4_3.3V (Output) (in) "3.3V +/-2.5% Power Output max 300mA per pin for a total of 600mA. This will be powereddown during power off or GLOBAL_EN being set low", 85 +5V (Input) (in) "4.75V-5.25V Main power input", 86 CM4_3.3V (Output) (in) "3.3V +/-2.5% Power Output max 300mA per pin for a total of 600mA. This will be powereddown during power off or GLOBAL_EN being set low", 87 +5V (Input) (in) "4.75V-5.25V Main power input", 88 CM4_1.8V (Output) (in) "1.8V +/-2.5% Power Output max 300mA per pin for a total of 600mA. This will be powereddown during power off or GLOBAL_EN being set low", 89 WL_nDisable (in) "Can be left floating if driven low the wireless interface will be disabled. Internal pulled up via1.8K to CM4_3.3V", 90 CM4_1.8V (Output) (in) "1.8V +/-2.5% Power Output max 300mA per pin for a total of 600mA. This will be powereddown during power off or GLOBAL_EN being set low", 91 BT_nDisable (in) "Can be left floating if driven low the Bluetooth interface will be disabled. Internal pulled upvia 1.8K to CM4_3.3V", 92 RUN_PG (in) "Bidirectional pin. Can be driven low ( via a 220R resistor) to Reset the CM4 CPU. As anOutput a high signals Power Good and CPU running. Internally pulled up to +3.3V via 10K", 93 nRPIBOOT (in) "A low on this pin forces booting from an RPI server ( e.g. PC or a Raspberry Pi)  if not usedleave floating. Internally pulled up via 10K to +3.3V", 94 AnalogIP1 (in) "Analogue input of the MXL7704. Typically connected to CC pin of Type C power connector", 95 PI_LED_nPWR (in) "Low active Output to drive Power On LED. This signal needs to be buffered.", 96 AnalogIP0 (in) "Analogue input of the MXL7704. Typically connected to CC pin of Type C power connector", 97 Camera_GPIO (in) "Typically used to Shutdown the camera to reduce power. Reassigning this pin to anotherfunction isn’t recommended. CM4_3.3V signalling", 98 GND (in) "Ground (0V)", 99 GLOBAL_EN (in) "Input. Drive low to power off CM4. Internally pulled up with a 100K to +5V", 100 nEXTRST (in) "Output Driven low during reset Driven high (CM4_3.3V) once CM4 CPU has started to boot"
part B pins: 101 USB_OTG_ID (in) "Input ( 3.3V signal ) USB OTG Pin. Internal pulled up. When grounded the CM4 becomes aUSB host but the correct OS driver also needs to be used", 102 PCIe_CLK_nREQ (in) "Input ( 3.3V signal) PCIe Clock request pin (low to request PCI clock). Internal pulled up", 103 USB_N (in) "USB D-", 104 Reserved (in) "Do not Connect anything to this pin.", 105 USB_P (in) "USB D+", 106 Reserved (in) "Do not Connect anything to this pin.", 107 GND (in) "Ground (0V)", 108 GND (in) "Ground (0V)", 109 PCIe_nRST (in) "Output (+3.3V signal) PCIe Reset Low active", 110 PCIe_CLK_P (in) "PCIe Clock Out Positive (100MHz) NB AC coupling Capacitor Included on CM4", 111 VDAC_COMP (in) "Video DAC output (TV OUT)", 112 PCIe_CLK_N (in) "PCIe Clock Out Negative (100MHz) NB AC coupling Capacitor Included on CM4", 113 GND (in) "Ground (0V)", 114 GND (in) "Ground (0V)", 115 CAM1_D0_N (in) "Input Camera1 D0 Negative", 116 PCIe_RX_P (in) "Input PCIe GEN 2 RX Positive NB External AC coupling Capacitor required", 117 CAM1_D0_P (in) "Input Camera1 D0 Positive", 118 PCIe_RX_N (in) "Input PCIe GEN 2 RX Negative NB External AC coupling Capacitor required", 119 GND (in) "Ground (0V)", 120 GND (in) "Ground (0V)", 121 CAM1_D1_N (in) "Input Camera1 D1 Negative", 122 PCIe_TX_P (in) "Output PCIe GEN 2 TX Positive NB AC coupling Capacitor Included on CM4", 123 CAM1_D1_P (in) "Input Camera1 D1 Positive", 124 PCIe_TX_N (in) "Output PCIe GEN 2 TX Positive NB AC coupling Capacitor Included on CM4", 125 GND (in) "Ground (0V)", 126 GND (in) "Ground (0V)", 127 CAM1_C_N (in) "Input Camera1 Clock Negative", 128 CAM0_D0_N (in) "Input Camera0 D0 Negative", 129 CAM1_C_P (in) "Input Camera1 Clock Positive", 130 CAM0_D0_P (in) "Input Camera0 D0 Positive", 131 GND (in) "Ground (0V)", 132 GND (in) "Ground (0V)", 133 CAM1_D2_N (in) "Input Camera1 D2 Negative", 134 CAM0_D1_N (in) "Input Camera0 D1 Negative", 135 CAM1_D2_P (in) "Input Camera1 D2 Positive", 136 CAM0_D1_P (in) "Input Camera0 D1 Positive", 137 GND (in) "Ground (0V)", 138 GND (in) "Ground (0V)", 139 CAM1_D3_N (in) "Input Camera1 D3 Negative", 140 CAM0_C_N (in) "Input Camera0 Clock Negative", 141 CAM1_D3_P (in) "Input Camera1 D3 Positive", 142 CAM0_C_P (in) "Input Camera0 Clock Positive", 143 HDMI1_HOTPLUG (in) "Input HDMI1 Hotplug Internally pulled down with a 100K. 5V tolerant. (It can be connecteddirectly to a HDMI connector a small amount of ESD protection is provided on the CM4 byan on board HDMI05-CL02F3)", 144 GND (in) "Ground (0V)", 145 HDMI1_SDA (in) "Bidir HDMI1 SDA Internally pulled up with a 1.8K. 5V tolerant. (It can be connected directlyto a HDMI connector a small amount of ESD protection is provided on the CM4 by an onboard HDMI05-CL02F3)", 146 HDMI1_TX2_P (in) "Output HDMI1 TX2 Positive", 147 HDMI1_SCL (in) "Input HDMI1 SCL Internally pulled up with a 1.8K. 5V tolerant. (It can be connected directlyto a HDMI connector a small amount of ESD protection is provided on the CM4 by an onboard HDMI05-CL02F3)", 148 HDMI1_TX2_N (in) "Output HDMI1 TX2 Negative", 149 HDMI1_CEC (in) "Input HDMI1 CEC Internally pulled up with a 27K. 5V tolerant. (It can be connected directlyto a HDMI connector a small amount of ESD protection is provided on the CM4 by an onboard HDMI05-CL02F3)", 150 GND (in) "Ground (0V)", 151 HDMI0_CEC (in) "Input HDMI0 CEC Internally pulled up with a 27K. 5V tolerant (It can be connected directlyto a HDMI connector a small amount of ESD protection is provided on the CM4 by an onboard HDMI05-CL02F3)", 152 HDMI1_TX1_P (in) "Output HDMI1 TX1 Positive", 153 HDMI0_HOTPLUG (in) "Input HDMI0 Hotplug Internally pulled down 100K. 5V tolerant. (It can be connected directlyto a HDMI connector a small amount of ESD protection is provided on the CM4 by an onboard HDMI05-CL02F3)", 154 HDMI1_TX1_N (in) "Output HDMI1 TX1 Negative", 155 GND (in) "Ground (0V)", 156 GND (in) "Ground (0V)", 157 DSI0_D0_N (in) "Output Display0 D0 Negative", 158 HDMI1_TX0_P (in) "Output HDMI1 TX0 Positive", 159 DSI0_D0_P (in) "Output Display0 D0 Positive", 160 HDMI1_TX0_N (in) "Output HDMI1 TX0 Negative", 161 GND (in) "Ground (0V)", 162 GND (in) "Ground (0V)", 163 DSI0_D1_N (in) "Output Display0 D1 Negative", 164 HDMI1_CLK_P (in) "Output HDMI1 Clock Positive", 165 DSI0_D1_P (in) "Output Display0 D1 Positive", 166 HDMI1_CLK_N (in) "Output HDMI1 Clock Negative", 167 GND (in) "Ground (0V)", 168 GND (in) "Ground (0V)", 169 DSI0_C_N (in) "Output Display0 Clock Negative", 170 HDMI0_TX2_P (in) "Output HDMI0 TX2 Positive", 171 DSI0_C_P (in) "Output Display0 Clock Positive", 172 HDMI0_TX2_N (in) "Output HDMI0 TX2 Negative", 173 GND (in) "Ground (0V)", 174 GND (in) "Ground (0V)", 175 DSI1_D0_N (in) "Output Display1 D0 Negative", 176 HDMI0_TX1_P (in) "Output HDMI0 TX1 Positive", 177 DSI1_D0_P (in) "Output Display1 D0 Positive", 178 HDMI0_TX1_N (in) "Output HDMI0 TX1 Negative", 179 GND (in) "Ground (0V)", 180 GND (in) "Ground (0V)", 181 DSI1_D1_N (in) "Output Display1 D1 Negative", 182 HDMI0_TX0_P (in) "Output HDMI0 TX0 Positive", 183 DSI1_D1_P (in) "Output Display1 D1 Positive", 184 HDMI0_TX0_N (in) "Output HDMI0 TX0 Negative", 185 GND (in) "Ground (0V)", 186 GND (in) "Ground (0V)", 187 DSI1_C_N (in) "Output Display1 Clock Negative", 188 HDMI0_CLK_P (in) "Output HDMI0 Clock Positive", 189 DSI1_C_P (in) "Output Display1 Clock Positive", 190 HDMI0_CLK_N (in) "Output HDMI0 Clock Negative", 191 GND (in) "Ground (0V)", 192 GND (in) "Ground (0V)", 193 DSI1_D2_N (in) "Output Display1 D2 Negative", 194 DSI1_D3_N (in) "Output Display1 D3 Negative", 195 DSI1_D2_P (in) "Output Display1 D2 Positive", 196 DSI1_D3_P (in) "Output Display1 D3 Positive", 197 GND (in) "Ground (0V)", 198 GND (in) "Ground (0V)", 199 HDMI0_SDA (in) "Bidir HDMI0 SDA Internally pulled up with a 1.8K. 5V tolerant. (It can be connected directlyto a HDMI connector a small amount of ESD protection is provided on the CM4 by an onboard HDMI05-CL02F3)", 200 HDMI0_SCL (in) "Bidir HDMI0 SCL Internally pulled up with a 1.8K. 5V tolerant. (It can be connected directlyto a HDMI connector a small amount of ESD protection is provided on the CM4 by an onboard HDMI05-CL02F3)"

## RPi-CM4-A
designator J?, comment DF40C-100DS-0.4V
CM4-A GPIO
footprint DF40C100DS04V51(CM4-A) (DF40C100DS04V51)
pins: 1 GND (power) "Ground (0V)", 2 GND (power) "Ground (0V)", 3 Ethernet_Pair3_P (io) "Ethernet Pair 3 Positive ( connect to Transformer or MagJack)", 4 Ethernet_Pair1_P (io) "Ethernet Pair 1 Positive ( connect to Transformer or MagJack)", 5 Ethernet_Pair3_N (io) "Ethernet Pair 3 Negative ( connect to Transformer or MagJack)", 6 Ethernet_Pair1_N (io) "Ethernet Pair 1 Negative ( connect to Transformer or MagJack)", 7 GND (power) "Ground (0V)", 8 GND (power) "Ground (0V)", 9 Ethernet_Pair2_N (io) "Ethernet Pair 2 Negative ( connect to Transformer or MagJack)", 10 Ethernet_Pair0_N (io) "Ethernet Pair 0 Negative ( connect to Transformer or MagJack)", 11 Ethernet_Pair2_P (io) "Ethernet Pair 2 Positive ( connect to Transformer or MagJack)", 12 Ethernet_Pair0_P (io) "Ethernet Pair 0 Positive ( connect to Transformer or MagJack)", 13 GND (power) "Ground (0V)", 14 GND (power) "Ground (0V)", 15 Ethernet_nLED3 (out) "Low Active Ethernet Activity indicator ( 3.3V signal) Typically a Green LED is connected tothis pin: I OL = 8mA @ VOL< 0.4V", 16 Ethernet_SYNC_IN (in) "IEEE1588 SYNC Input pin ( 1.8V signal : IOL = 8mA @ VOL< 0.4V )", 17 Ethernet_nLED2 (out) "Low Active Ethernet speed indicator ( 3.3V signal) Typically a Yellow LED is connected tothis pin. A low State indicates the 1Gbit or 100Mbit Link : IOL = 8mA @ VOL< 0.4V", 18 Ethernet_SYNC_OUT (out) "IEEE1588 SYNC Output pin ( 1.8V signal : IOL = 8mA @ V OL< 0.4V )", 19 Ethernet_nLED1 (out) "Low Active Ethernet speed indicator ( 3.3V signal) Typically a Yellow LED is connected tothis pin. A low State indicates the 1Gbit or 10Mbit Link : IOL = 8mA @ VOL< 0.4V", 20 EEPROM_nWP (in) "Leaving floating NB internally pulled up to CM4_3.3V via 100K ( VIL <0.8V) but can begrounded to prevent writing to the on board EEPROM which stores the bootcode", 21 Pi_nLED_Activity (out) "Low Active Pi Activity LED. 20mA Max 5V tolerant ( VOL<0.4V). ( this is the signal that drivesthe Green LED on the Raspberry Pi 4, Model B )", 22 GND (power) "Ground (0V)", 23 GND (power) "Ground (0V)", 24 GPIO26 (io) "GPIO Typically a 3.3V signal but can be a 1.8V signal by connecting GPIO_Vref to 1.8V", 25 GPIO21 (io) "GPIO Typically a 3.3V signal but can be a 1.8V signal by connecting GPIO_Vref to 1.8V", 26 GPIO19 (io) "GPIO Typically a 3.3V signal but can be a 1.8V signal by connecting GPIO_Vref to 1.8V", 27 GPIO20 (io) "GPIO Typically a 3.3V signal but can be a 1.8V signal by connecting GPIO_Vref to 1.8V", 28 GPIO13 (io) "GPIO Typically a 3.3V signal but can be a 1.8V signal by connecting GPIO_Vref to 1.8V", 29 GPIO16 (io) "GPIO Typically a 3.3V signal but can be a 1.8V signal by connecting GPIO_Vref to 1.8V", 30 GPIO6 (io) "GPIO Typically a 3.3V signal but can be a 1.8V signal by connecting GPIO_Vref to 1.8V", 31 GPIO12 (io) "GPIO Typically a 3.3V signal but can be a 1.8V signal by connecting GPIO_Vref to 1.8V", 32 GND (power) "Ground (0V)", 33 GND (power) "Ground (0V)", 34 GPIO5 (in) "GPIO Typically a 3.3V signal but can be a 1.8V signal by connecting GPIO_Vref to 1.8V", 35 ID_SC (io) "( BCM2711 GPIO 1) GPIO Typically a 3.3V signal but can be a 1.8V signal by connectingGPIO_Vref to 1.8V", 36 ID_SD (io) "( BCM2711 GPIO 0) GPIO Typically a 3.3V signal but can be a 1.8V signal by connectingGPIO_Vref to 1.8V", 37 GPIO7 (io) "GPIO Typically a 3.3V signal but can be a 1.8V signal by connecting GPIO_Vref to 1.8V", 38 GPIO11 (io) "GPIO Typically a 3.3V signal but can be a 1.8V signal by connecting GPIO_Vref to 1.8V", 39 GPIO8 (io) "GPIO Typically a 3.3V signal but can be a 1.8V signal by connecting GPIO_Vref to 1.8V", 40 GPIO9 (io) "GPIO Typically a 3.3V signal but can be a 1.8V signal by connecting GPIO_Vref to 1.8V", 41 GPIO25 (io) "GPIO Typically a 3.3V signal but can be a 1.8V signal by connecting GPIO_Vref to 1.8V", 42 GND (power) "Ground (0V)", 43 GND (power) "Ground (0V)", 44 GPIO10 (io) "GPIO Typically a 3.3V signal but can be a 1.8V signal by connecting GPIO_Vref to 1.8V", 45 GPIO24 (io) "GPIO Typically a 3.3V signal but can be a 1.8V signal by connecting GPIO_Vref to 1.8V", 46 GPIO22 (io) "GPIO Typically a 3.3V signal but can be a 1.8V signal by connecting GPIO_Vref to 1.8V", 47 GPIO23 (io) "GPIO Typically a 3.3V signal but can be a 1.8V signal by connecting GPIO_Vref to 1.8V", 48 GPIO27 (io) "GPIO Typically a 3.3V signal but can be a 1.8V signal by connecting GPIO_Vref to 1.8V", 49 GPIO18 (io) "GPIO Typically a 3.3V signal but can be a 1.8V signal by connecting GPIO_Vref to 1.8V", 50 GPIO17 (io) "GPIO Typically a 3.3V signal but can be a 1.8V signal by connecting GPIO_Vref to 1.8V", 51 GPIO15 (io) "GPIO Typically a 3.3V signal but can be a 1.8V signal by connecting GPIO_Vref to 1.8V", 52 GND (power) "Ground (0V)", 53 GND (power) "Ground (0V)", 54 GPIO4 (io) "GPIO Typically a 3.3V signal but can be a 1.8V signal by connecting GPIO_Vref to 1.8V", 55 GPIO14 (io) "GPIO Typically a 3.3V signal but can be a 1.8V signal by connecting GPIO_Vref to 1.8V", 56 GPIO3 (io) "GPIO Typically a 3.3V signal but can be a 1.8V signal by connecting GPIO_Vref to 1.8V.Internal 1.8K pull up to GPIO_Vref", 57 SD_CLK (out) "SDCARD Clock signal (only available on CM4Lite)", 58 GPIO2 (io) "GPIO Typically a 3.3V signal but can be a 1.8V signal by connecting GPIO_Vref to 1.8V.Internal 1.8K pull up to GPIO_Vref", 59 GND (power) "Ground (0V)", 60 GND (power) "Ground (0V)", 61 SD_DAT3 (io) "SDCARD/eMMC Data3 signal (only available on CM4Lite)", 62 SD_CMD (io) "SDCARD/eMMC Command signal (only available on CM4Lite)", 63 SD_DAT0 (io) "SDCARD/eMMC Data0 signal (only available on CM4Lite)", 64 SD_DAT5 (io) "SDCARD/eMMC Data5 signal (only available on CM4Lite)", 65 GND (power) "Ground (0V)", 66 GND (power) "Ground (0V)", 67 SD_DAT1 (io) "SDCARD/eMMC Data1 signal (only available on CM4Lite)", 68 SD_DAT4 (io) "SDCARD/eMMC Data4 signal (only available on CM4Lite)", 69 SD_DAT2 (io) "SDCARD/eMMC Data2 signal (only available on CM4Lite)", 70 SD_DAT7 (io) "SDCARD/eMMC Data7 signal (only available on CM4Lite)", 71 GND (power) "Ground (0V)", 72 SD_DAT6 (io) "SDCARD/eMMC Data6 signal (only available on CM4Lite)", 73 SD_VDD_Override (in) "Force SDCARD/eMMC interface to 1.8V signalling if set to 3.3V, otherwise leaveunconnected. Typically only used if external eMMC is connected", 74 GND (power) "Ground (0V)", 75 SD_PWR_ON (out) "Output to Power switch for the SDCARD. The CM4 sets this pin High (3.3V) to signal thatPower to the SDCARD should be turned on. If booting from the SDCARD is required then apullup should also be fitted so the power defaults to on. (only available on CM4Lite)", 76 Reserved "Do not Connect anything to this pin.", 77 +5V (Input) (power) "4.75V-5.25V Main power input", 78 GPIO_VREF (in) "Must be connected to CM4_3.3V ( pins 84 and 86 ) for 3.3V GPIO or CM4_1.8V ( pins 88 and90) for 1.8V GPIO. This pin cannot be floating or connected to ground", 79 +5V (Input) (power) "4.75V-5.25V Main power input", 80 SCL0 (io) "IIC Clock pin ( BCM2711 GPIO45) Typically used for Camera and Display Internal 1.8K pullup to CM4_3.3V", 81 +5V (Input) (power) "4.75V-5.25V Main power input", 82 SDA0 (io) "IIC Data pin ( BCM2711 GPIO44 ) Typically used for Camera and Display Internal 1.8K pullup to CM4_3.3V", 83 +5V (Input) (power) "4.75V-5.25V Main power input", 84 CM4_3.3V (Output) (power) "3.3V +/-2.5% Power Output max 300mA per pin for a total of 600mA. This will be powereddown during power off or GLOBAL_EN being set low", 85 +5V (Input) (power) "4.75V-5.25V Main power input", 86 CM4_3.3V (Output) (power) "3.3V +/-2.5% Power Output max 300mA per pin for a total of 600mA. This will be powereddown during power off or GLOBAL_EN being set low", 87 +5V (Input) (power) "4.75V-5.25V Main power input", 88 CM4_1.8V (Output) (out) "1.8V +/-2.5% Power Output max 300mA per pin for a total of 600mA. This will be powereddown during power off or GLOBAL_EN being set low", 89 WL_nDisable (in) "Can be left floating if driven low the wireless interface will be disabled. Internal pulled up via1.8K to CM4_3.3V", 90 CM4_1.8V (Output) (power) "1.8V +/-2.5% Power Output max 300mA per pin for a total of 600mA. This will be powereddown during power off or GLOBAL_EN being set low", 91 BT_nDisable (in) "Can be left floating if driven low the Bluetooth interface will be disabled. Internal pulled upvia 1.8K to CM4_3.3V", 92 RUN_PG (io) "Bidirectional pin. Can be driven low ( via a 220R resistor) to Reset the CM4 CPU. As anOutput a high signals Power Good and CPU running. Internally pulled up to +3.3V via 10K", 93 nRPIBOOT (in) "A low on this pin forces booting from an RPI server ( e.g. PC or a Raspberry Pi)  if not usedleave floating. Internally pulled up via 10K to +3.3V", 94 AnalogIP1 (in) "Analogue input of the MXL7704. Typically connected to CC pin of Type C power connector", 95 PI_LED_nPWR (in) "Low active Output to drive Power On LED. This signal needs to be buffered.", 96 AnalogIP0 (in) "Analogue input of the MXL7704. Typically connected to CC pin of Type C power connector", 97 Camera_GPIO (in) "Typically used to Shutdown the camera to reduce power. Reassigning this pin to anotherfunction isn’t recommended. CM4_3.3V signalling", 98 GND (power) "Ground (0V)", 99 GLOBAL_EN (in) "Input. Drive low to power off CM4. Internally pulled up with a 100K to +5V", 100 nEXTRST (in) "Output Driven low during reset Driven high (CM4_3.3V) once CM4 CPU has started to boot"
text: ComputeModule4-A(GPIO); 1.8v/3.3v_Input; 600mA Max

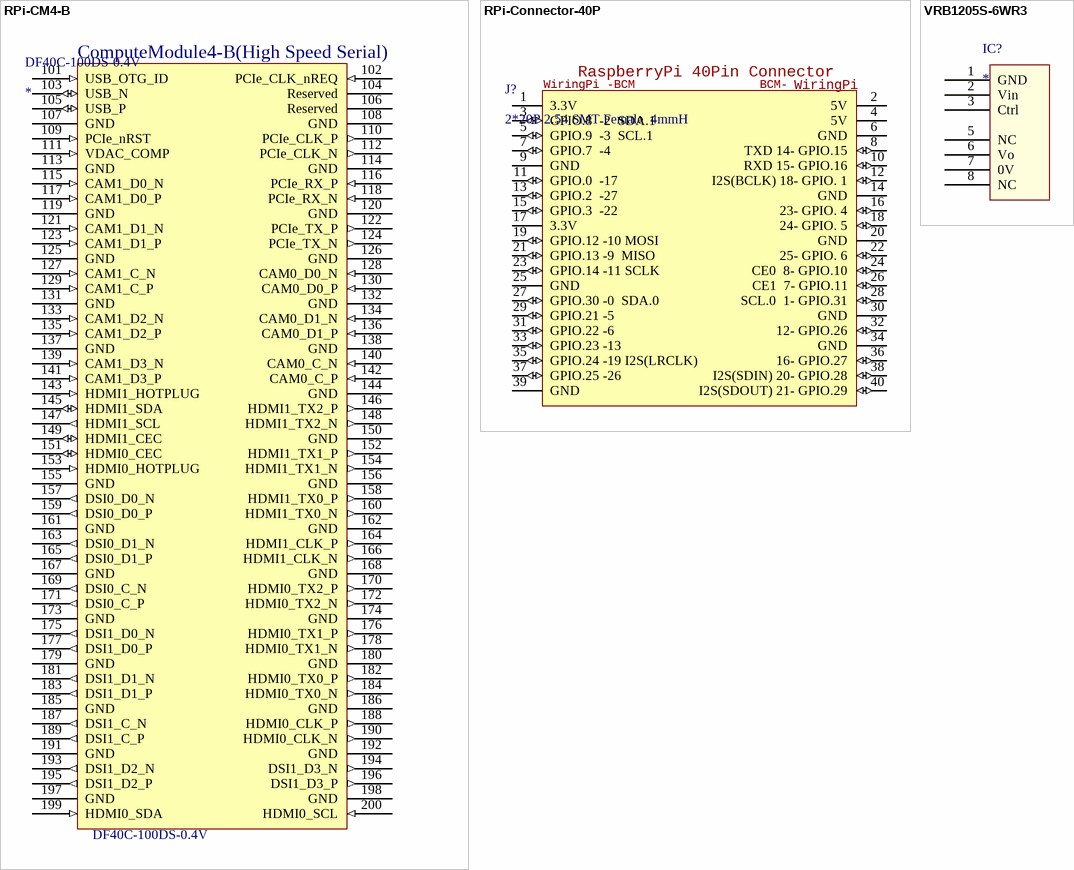
[diagram p6: symbols RPi-CM4-B to VRB1205S-6WR3]

## RPi-CM4-B
designator DF40C-100DS-0.4V
CM4-B High Speed Serial
footprint DF40C100DS04V51(CM4-B) (DF40C100DS04V51)
pins: 101 USB_OTG_ID (in) "Input ( 3.3V signal ) USB OTG Pin. Internal pulled up. When grounded the CM4 becomes aUSB host but the correct OS driver also needs to be used", 102 PCIe_CLK_nREQ (in) "Input ( 3.3V signal) PCIe Clock request pin (low to request PCI clock). Internal pulled up", 103 USB_N (io) "USB D-", 104 Reserved "Do not Connect anything to this pin.", 105 USB_P (io) "USB D+", 106 Reserved "Do not Connect anything to this pin.", 107 GND (power) "Ground (0V)", 108 GND (power) "Ground (0V)", 109 PCIe_nRST (in) "Output (+3.3V signal) PCIe Reset Low active", 110 PCIe_CLK_P (out) "PCIe Clock Out Positive (100MHz) NB AC coupling Capacitor Included on CM4", 111 VDAC_COMP (in) "Video DAC output (TV OUT)", 112 PCIe_CLK_N (out) "PCIe Clock Out Negative (100MHz) NB AC coupling Capacitor Included on CM4", 113 GND (power) "Ground (0V)", 114 GND (power) "Ground (0V)", 115 CAM1_D0_N (in) "Input Camera1 D0 Negative", 116 PCIe_RX_P (in) "Input PCIe GEN 2 RX Positive NB External AC coupling Capacitor required", 117 CAM1_D0_P (in) "Input Camera1 D0 Positive", 118 PCIe_RX_N (in) "Input PCIe GEN 2 RX Negative NB External AC coupling Capacitor required", 119 GND (power) "Ground (0V)", 120 GND (power) "Ground (0V)", 121 CAM1_D1_N (in) "Input Camera1 D1 Negative", 122 PCIe_TX_P (out) "Output PCIe GEN 2 TX Positive NB AC coupling Capacitor Included on CM4", 123 CAM1_D1_P (in) "Input Camera1 D1 Positive", 124 PCIe_TX_N (out) "Output PCIe GEN 2 TX Positive NB AC coupling Capacitor Included on CM4", 125 GND (power) "Ground (0V)", 126 GND (power) "Ground (0V)", 127 CAM1_C_N (in) "Input Camera1 Clock Negative", 128 CAM0_D0_N (in) "Input Camera0 D0 Negative", 129 CAM1_C_P (in) "Input Camera1 Clock Positive", 130 CAM0_D0_P (in) "Input Camera0 D0 Positive", 131 GND (power) "Ground (0V)", 132 GND (power) "Ground (0V)", 133 CAM1_D2_N (in) "Input Camera1 D2 Negative", 134 CAM0_D1_N (in) "Input Camera0 D1 Negative", 135 CAM1_D2_P (in) "Input Camera1 D2 Positive", 136 CAM0_D1_P (in) "Input Camera0 D1 Positive", 137 GND (power) "Ground (0V)", 138 GND (power) "Ground (0V)", 139 CAM1_D3_N (in) "Input Camera1 D3 Negative", 140 CAM0_C_N (in) "Input Camera0 Clock Negative", 141 CAM1_D3_P (in) "Input Camera1 D3 Positive", 142 CAM0_C_P (in) "Input Camera0 Clock Positive", 143 HDMI1_HOTPLUG (in) "Input HDMI1 Hotplug Internally pulled down with a 100K. 5V tolerant. (It can be connecteddirectly to a HDMI connector a small amount of ESD protection is provided on the CM4 byan on board HDMI05-CL02F3)", 144 GND (power) "Ground (0V)", 145 HDMI1_SDA (io) "Bidir HDMI1 SDA Internally pulled up with a 1.8K. 5V tolerant. (It can be connected directlyto a HDMI connector a small amount of ESD protection is provided on the CM4 by an onboard HDMI05-CL02F3)", 146 HDMI1_TX2_P (out) "Output HDMI1 TX2 Positive", 147 HDMI1_SCL (out) "Input HDMI1 SCL Internally pulled up with a 1.8K. 5V tolerant. (It can be connected directlyto a HDMI connector a small amount of ESD protection is provided on the CM4 by an onboard HDMI05-CL02F3)", 148 HDMI1_TX2_N (out) "Output HDMI1 TX2 Negative", 149 HDMI1_CEC (io) "Input HDMI1 CEC Internally pulled up with a 27K. 5V tolerant. (It can be connected directlyto a HDMI connector a small amount of ESD protection is provided on the CM4 by an onboard HDMI05-CL02F3)", 150 GND (power) "Ground (0V)", 151 HDMI0_CEC (io) "Input HDMI0 CEC Internally pulled up with a 27K. 5V tolerant (It can be connected directlyto a HDMI connector a small amount of ESD protection is provided on the CM4 by an onboard HDMI05-CL02F3)", 152 HDMI1_TX1_P (out) "Output HDMI1 TX1 Positive", 153 HDMI0_HOTPLUG (in) "Input HDMI0 Hotplug Internally pulled down 100K. 5V tolerant. (It can be connected directlyto a HDMI connector a small amount of ESD protection is provided on the CM4 by an onboard HDMI05-CL02F3)", 154 HDMI1_TX1_N (out) "Output HDMI1 TX1 Negative", 155 GND (power) "Ground (0V)", 156 GND (power) "Ground (0V)", 157 DSI0_D0_N (out) "Output Display0 D0 Negative", 158 HDMI1_TX0_P (out) "Output HDMI1 TX0 Positive", 159 DSI0_D0_P (out) "Output Display0 D0 Positive", 160 HDMI1_TX0_N (out) "Output HDMI1 TX0 Negative", 161 GND (power) "Ground (0V)", 162 GND (power) "Ground (0V)", 163 DSI0_D1_N (out) "Output Display0 D1 Negative", 164 HDMI1_CLK_P (out) "Output HDMI1 Clock Positive", 165 DSI0_D1_P (out) "Output Display0 D1 Positive", 166 HDMI1_CLK_N (out) "Output HDMI1 Clock Negative", 167 GND (power) "Ground (0V)", 168 GND (power) "Ground (0V)", 169 DSI0_C_N (out) "Output Display0 Clock Negative", 170 HDMI0_TX2_P (out) "Output HDMI0 TX2 Positive", 171 DSI0_C_P (out) "Output Display0 Clock Positive", 172 HDMI0_TX2_N (out) "Output HDMI0 TX2 Negative", 173 GND (power) "Ground (0V)", 174 GND (power) "Ground (0V)", 175 DSI1_D0_N (out) "Output Display1 D0 Negative", 176 HDMI0_TX1_P (out) "Output HDMI0 TX1 Positive", 177 DSI1_D0_P (out) "Output Display1 D0 Positive", 178 HDMI0_TX1_N (out) "Output HDMI0 TX1 Negative", 179 GND (power) "Ground (0V)", 180 GND (power) "Ground (0V)", 181 DSI1_D1_N (out) "Output Display1 D1 Negative", 182 HDMI0_TX0_P (out) "Output HDMI0 TX0 Positive", 183 DSI1_D1_P (out) "Output Display1 D1 Positive", 184 HDMI0_TX0_N (out) "Output HDMI0 TX0 Negative", 185 GND (power) "Ground (0V)", 186 GND (power) "Ground (0V)", 187 DSI1_C_N (out) "Output Display1 Clock Negative", 188 HDMI0_CLK_P (out) "Output HDMI0 Clock Positive", 189 DSI1_C_P (out) "Output Display1 Clock Positive", 190 HDMI0_CLK_N (out) "Output HDMI0 Clock Negative", 191 GND (power) "Ground (0V)", 192 GND (power) "Ground (0V)", 193 DSI1_D2_N (out) "Output Display1 D2 Negative", 194 DSI1_D3_N (out) "Output Display1 D3 Negative", 195 DSI1_D2_P (out) "Output Display1 D2 Positive", 196 DSI1_D3_P (out) "Output Display1 D3 Positive", 197 GND (power) "Ground (0V)", 198 GND (power) "Ground (0V)", 199 HDMI0_SDA (in) "Bidir HDMI0 SDA Internally pulled up with a 1.8K. 5V tolerant. (It can be connected directlyto a HDMI connector a small amount of ESD protection is provided on the CM4 by an onboard HDMI05-CL02F3)", 200 HDMI0_SCL (in) "Bidir HDMI0 SCL Internally pulled up with a 1.8K. 5V tolerant. (It can be connected directlyto a HDMI connector a small amount of ESD protection is provided on the CM4 by an onboard HDMI05-CL02F3)"
text: ComputeModule4-B(High Speed Serial)

## RPi-Connector-40P
designator J?, comment 2*20P 2.54 SMT Female  4mmH
footprint SMT2X20/2.54x3.5-Bottom
footprint SMT2X20/2.54x3.5-Top
footprint SMT2X20/2.54X3.5 NonHole
pins: 1 3.3V (power), 2 5V (power), 3 GPIO.8  -2  SDA.1 (io), 4 5V (power), 5 GPIO.9  -3  SCL.1 (io), 6 GND (power), 7 GPIO.7  -4 (io), 8 TXD 14- GPIO.15 (io), 9 GND (power), 10 RXD 15- GPIO.16 (io), 11 GPIO.0  -17 (io), 12 I2S(BCLK) 18- GPIO. 1 (io), 13 GPIO.2  -27 (io), 14 GND (power), 15 GPIO.3  -22 (io), 16 23- GPIO. 4 (io), 17 3.3V (power), 18 24- GPIO. 5 (io), 19 GPIO.12 -10 MOSI (io), 20 GND (power), 21 GPIO.13 -9  MISO (io), 22 25- GPIO. 6 (io), 23 GPIO.14 -11 SCLK (io), 24 CE0  8- GPIO.10 (io), 25 GND (power), 26 CE1  7- GPIO.11 (io), 27 GPIO.30 -0  SDA.0 (io), 28 SCL.0  1- GPIO.31 (io), 29 GPIO.21 -5 (io), 30 GND (power), 31 GPIO.22 -6 (io), 32 12- GPIO.26 (io), 33 GPIO.23 -13 (io), 34 GND (power), 35 GPIO.24 -19 I2S(LRCLK) (io), 36 16- GPIO.27 (io), 37 GPIO.25 -26 (io), 38 I2S(SDIN) 20- GPIO.28 (io), 39 GND (power), 40 I2S(SDOUT) 21- GPIO.29 (io)
text: RaspberryPi 40Pin Connector; WiringPi; -BCM; BCM-

## VRB1205S-6WR3
designator IC?
DCDC隔离模块
footprint VRB1205S (DCDC模块)
pins: 1 GND (power), 2 Vin (power), 3 Ctrl (power), 5 NC (power), 6 Vo (power), 7 0V (power), 8 NC (power)